# Altium schematic symbol library AMZ_Altium_Lib.SchLib: 396 symbols (part 2 of 3)
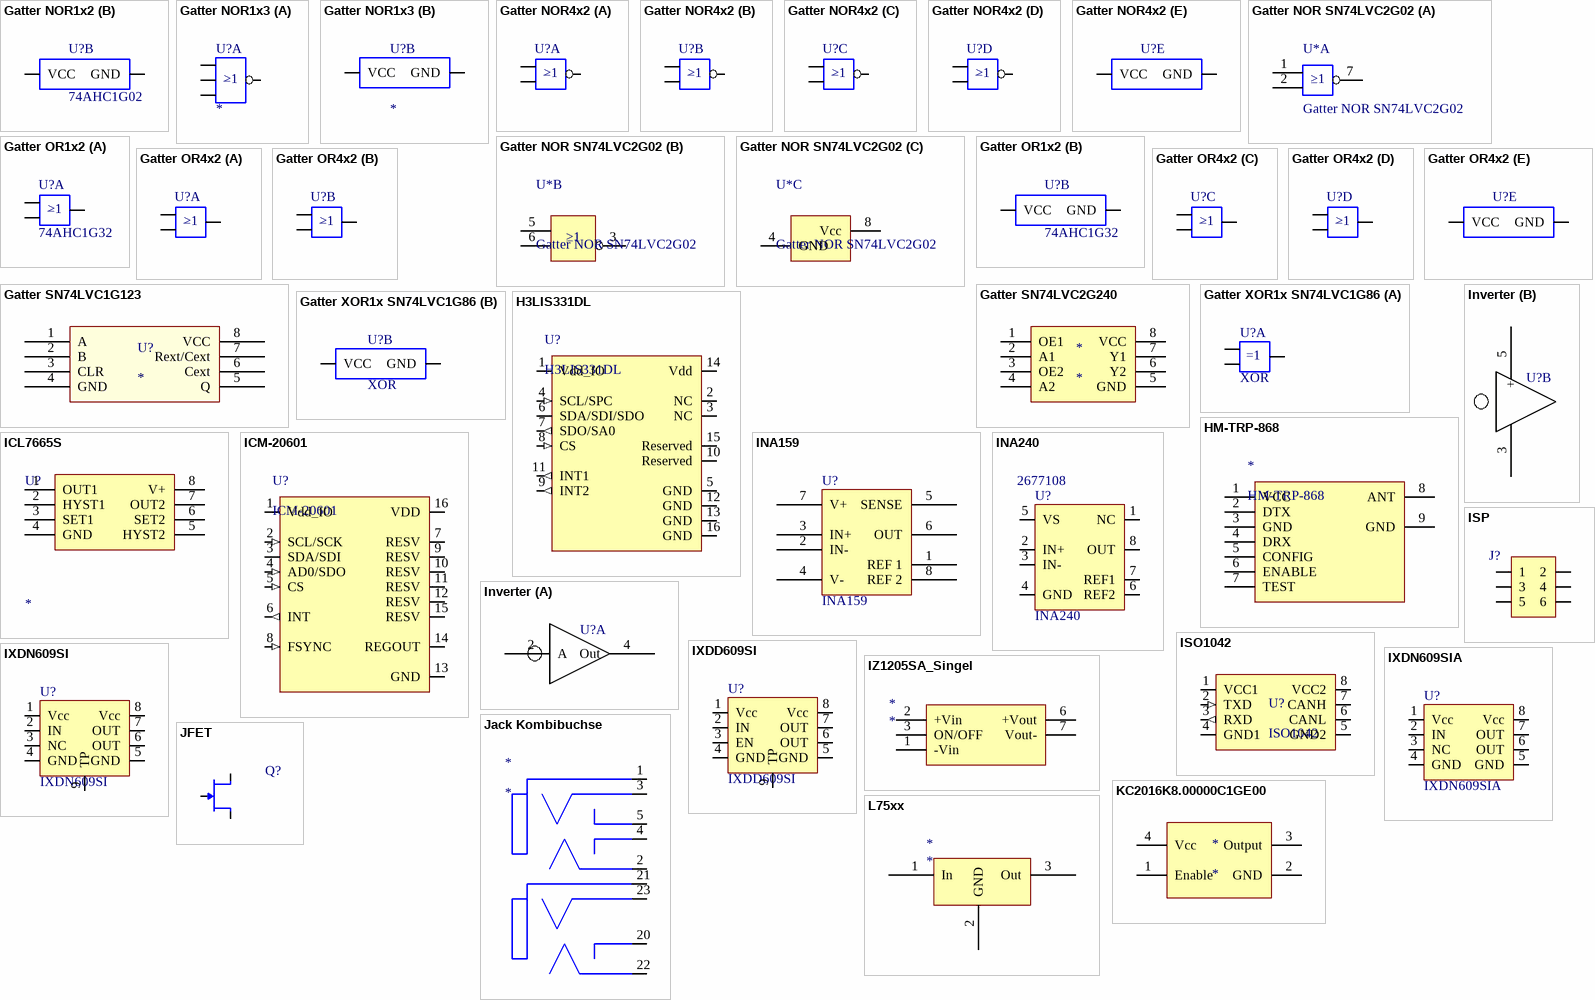
[diagram p20: symbols Gatter NOR1x2 to L75xx]

## IXDD609SI
designator U?
9-Ampere Low-Side Ultrafast MOSFET Driver with enable input
footprint SOIC-8-T (Exposed Thermal Pad)
pins: 1 Vcc, 2 IN, 3 EN, 4 GND, 5 GND, 6 OUT, 7 OUT, 8 Vcc, 9 TP

## IXDN609SI
designator U?
9-Ampere Low-Side Ultrafast MOSFET Drivers
footprint SOIC-8-T (Exposed Thermal Pad)
pins: 1 Vcc, 2 IN, 3 NC, 4 GND, 5 GND, 6 OUT, 7 OUT, 8 Vcc, 9 TP

## IXDN609SIA
designator U?
9-Ampere Low-Side Ultrafast MOSFET Drivers
footprint SO8
pins: 1 Vcc, 2 IN, 3 NC, 4 GND, 5 GND, 6 OUT, 7 OUT, 8 Vcc

## IZ1205SA_Singel
designator *
footprint XPPowerIZ
pins: 1 -Vin, 2 +Vin, 3 ON/OFF, 6 +Vout, 7 Vout-, 8 NC hidden

## Jack Kombibuchse
designator *
footprint Headsetbuchse
pins: 1, 2, 3, 4, 5, 20, 21, 22, 23

## JFET
designator Q?  (value not drawn)
pins: 1 DRAIN, 2 Source, 3 G

## KC2016K8.00000C1GE00
designator *
footprint KC2016K8.00000C1GE00 (Oszillator)
pins: 1 Enable, 2 GND, 3 Output, 4 Vcc

## L75xx
designator *
pins: 1 In, 2 GND, 3 Out

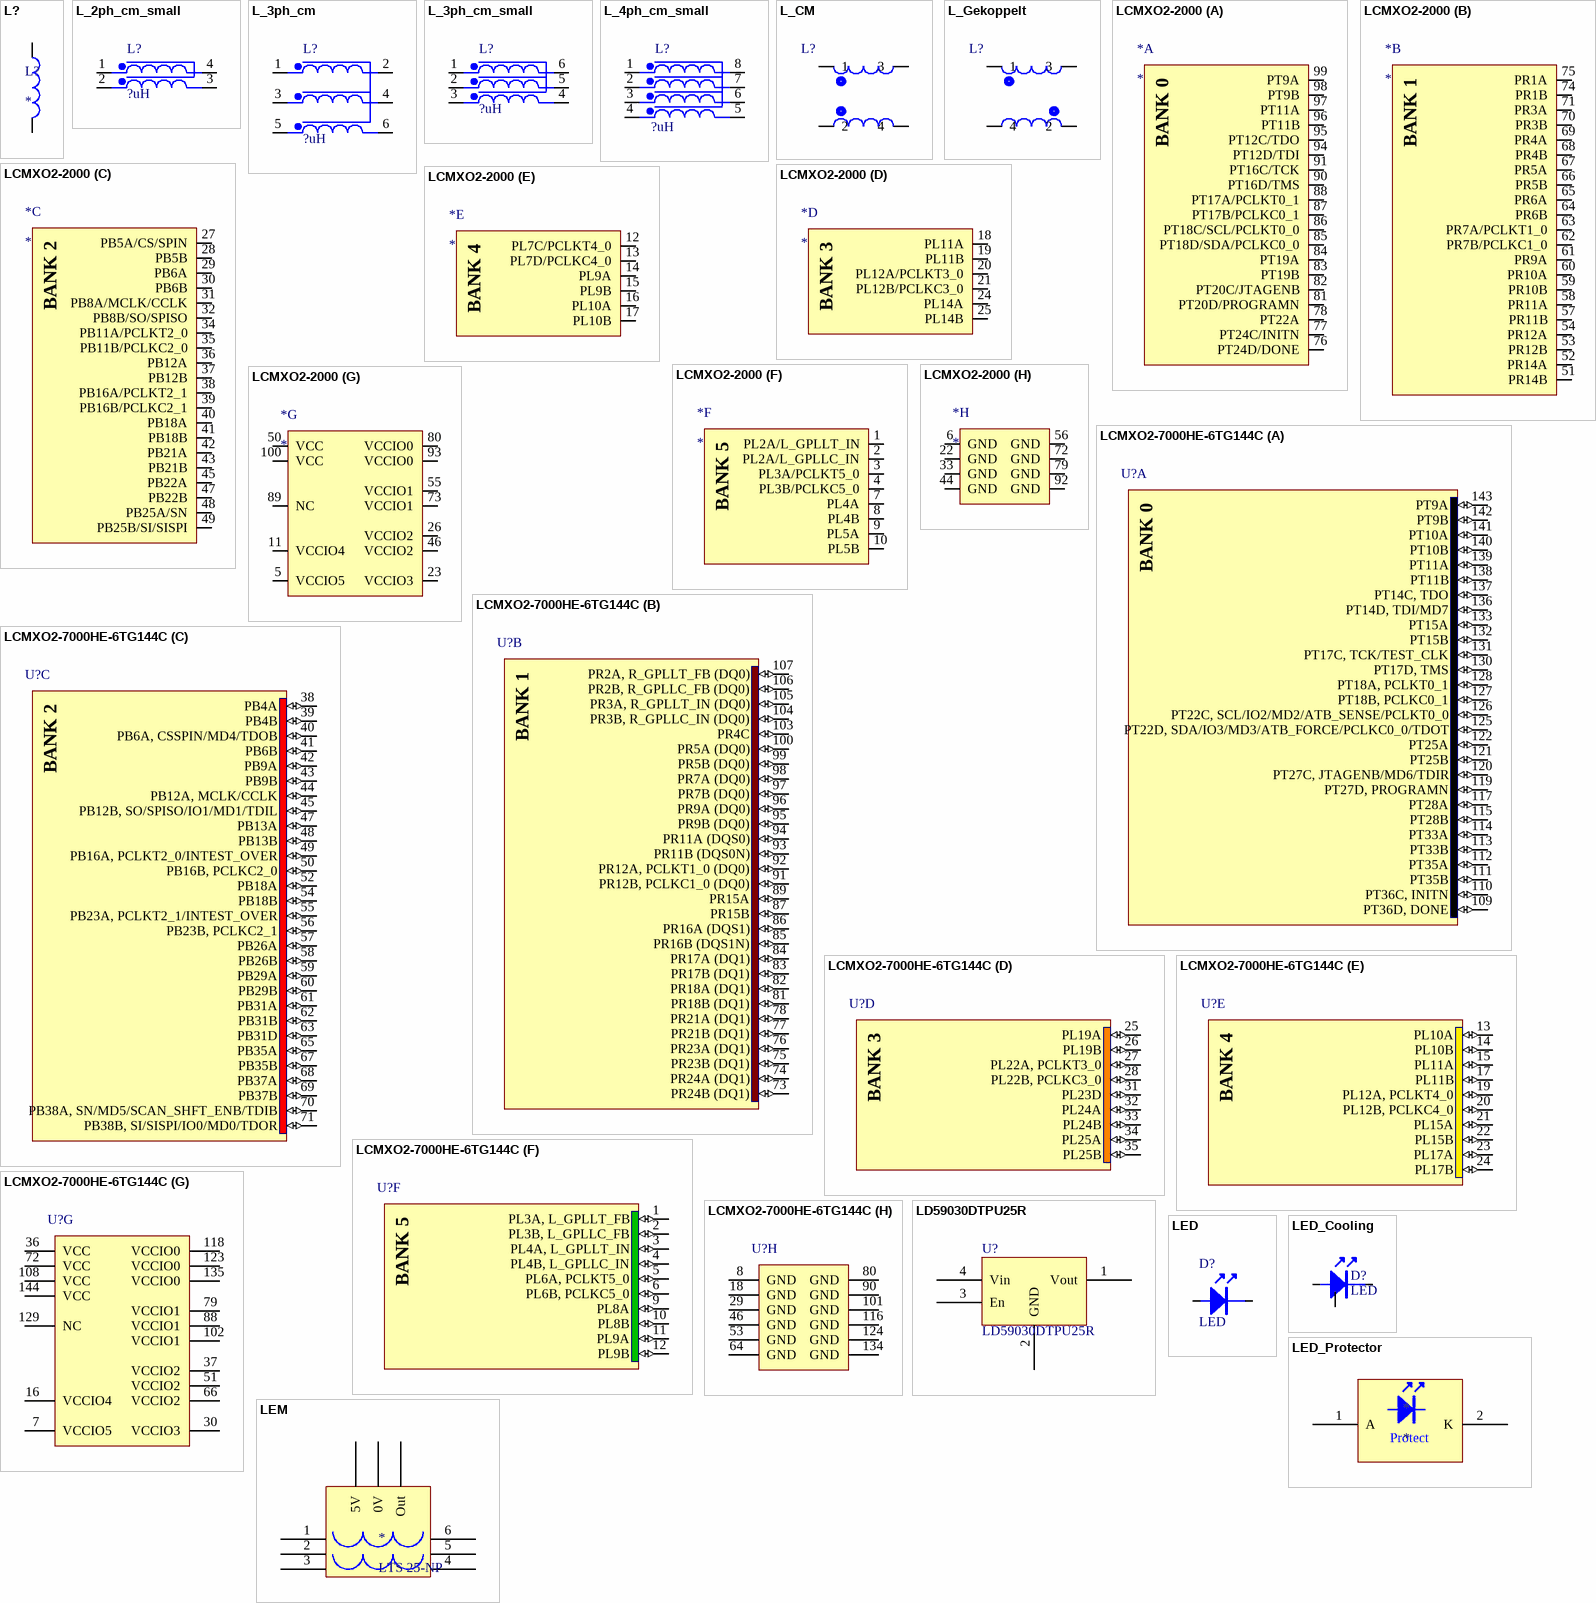
[diagram p8: symbols L? to LEM]

## L?
designator L?
footprint L (Spule gross)
footprint L_Coilcraft_XAL8080 (Shielded Power Inductors 8.1 x 8.6 mm)
footprint 1206
footprint 4828_Bourns (12uH 4828 2A SRR4828A-120M)
footprint L_BOURNS_SRP3020TA
footprint L_BOURNS_SRU2013 (Bourns)
footprint L_TDK_NLFV32-EF
pins: 1, 2

## L_2ph_cm_small
designator L?, comment ?uH
2 Phase Common Mode Choke
footprint ACM2520-2P (2x CM Choke)
footprint L_2014 (2x CM Choke, Attention, Pin Numbers diff from Datasheet)
footprint L_TDK_ACP3225
pins: 1, 2, 3, 4

## L_3ph_cm
designator L?, comment ?uH
3 Phase Common Mode Choke
footprint L_T60405-S6123-X332 (3 Phase Common Mode Choke Vacuumschmelze T60405-S6123-X332)
pins: 1 U1, 2 U2, 3 V1, 4 V2, 5 W1, 6 W2

## L_3ph_cm_small
designator L?, comment ?uH
3 Phase Common Mode Choke
footprint ACM2520-3P (3x CM Choke)
pins: 1, 2, 3, 4, 5, 6

## L_4ph_cm_small
designator L?, comment ?uH
4 Phase Common Mode Choke
pins: 1, 2, 3, 4, 5, 6, 7, 8

## L_CM
designator L?
Common Mode Choke
footprint Coupled_Inductor
pins: 1, 2, 3, 4

## L_Gekoppelt
designator L?
Normaler Widerstand
footprint Coupled_Inductor
pins: 1, 2, 3, 4

## LCMXO2-2000
designator *
footprint TQFP100 _0.5mm_1.6mm
part A pins: 76 PT24D/DONE (io), 77 PT24C/INITN (io), 78 PT22A (io), 81 PT20D/PROGRAMN (io), 82 PT20C/JTAGENB (io), 83 PT19B (io), 84 PT19A (io), 85 PT18D/SDA/PCLKC0_0 (io), 86 PT18C/SCL/PCLKT0_0 (io), 87 PT17B/PCLKC0_1 (io), 88 PT17A/PCLKT0_1 (io), 90 PT16D/TMS (io), 91 PT16C/TCK (io), 94 PT12D/TDI (io), 95 PT12C/TDO (io), 96 PT11B (io), 97 PT11A (io), 98 PT9B (io), 99 PT9A (io)
part B pins: 51 PR14B (io), 52 PR14A (io), 53 PR12B (io), 54 PR12A (io), 57 PR11B (io), 58 PR11A (io), 59 PR10B (io), 60 PR10A (io), 61 PR9A (io), 62 PR7B/PCLKC1_0 (io), 63 PR7A/PCLKT1_0 (io), 64 PR6B (io), 65 PR6A (io), 66 PR5B (io), 67 PR5A (io), 68 PR4B (io), 69 PR4A (io), 70 PR3B (io), 71 PR3A (io), 74 PR1B (io), 75 PR1A (io)
part C pins: 27 PB5A/CS/SPIN (io), 28 PB5B (io), 29 PB6A (io), 30 PB6B (io), 31 PB8A/MCLK/CCLK (io), 32 PB8B/SO/SPISO (io), 34 PB11A/PCLKT2_0 (io), 35 PB11B/PCLKC2_0 (io), 36 PB12A (io), 37 PB12B (io), 38 PB16A/PCLKT2_1 (io), 39 PB16B/PCLKC2_1 (io), 40 PB18A (io), 41 PB18B (io), 42 PB21A (io), 43 PB21B (io), 45 PB22A (io), 47 PB22B (io), 48 PB25A/SN (io), 49 PB25B/SI/SISPI (io)
part D pins: 18 PL11A (io), 19 PL11B (io), 20 PL12A/PCLKT3_0 (io), 21 PL12B/PCLKC3_0 (io), 24 PL14A (io), 25 PL14B (io)
part E pins: 12 PL7C/PCLKT4_0 (io), 13 PL7D/PCLKC4_0 (io), 14 PL9A (io), 15 PL9B (io), 16 PL10A (io), 17 PL10B (io)
part F pins: 1 PL2A/L_GPLLT_IN (io), 2 PL2A/L_GPLLC_IN (io), 3 PL3A/PCLKT5_0 (io), 4 PL3B/PCLKC5_0 (io), 7 PL4A (io), 8 PL4B (io), 9 PL5A (io), 10 PL5B (io)
part G pins: 5 VCCIO5 (power), 11 VCCIO4 (power), 23 VCCIO3 (power), 26 VCCIO2 (power), 46 VCCIO2 (power), 50 VCC (power), 55 VCCIO1 (power), 73 VCCIO1 (power), 80 VCCIO0 (power), 89 NC, 93 VCCIO0 (power), 100 VCC (power)
part H pins: 6 GND (power), 22 GND (power), 33 GND (power), 44 GND (power), 56 GND (power), 72 GND (power), 79 GND (power), 92 GND (power)
part A text: BANK 0
part B text: BANK 1
part C text: BANK 2
part D text: BANK 3
part E text: BANK 4
part F text: BANK 5

## LCMXO2-7000HE-6TG144C
designator U?
MachXO2 High Performance CPLD with 6864 LUTs, 1.2V, 144-pin TQFP, Speed Grade-6, Commercial Grade, Halogen Free (RoHS); DatasheetVersion: ver01.5, Aug-2011; PackageVersion: ver02.8, Jul-2011; PackageReference: TQFP144; PackageDescription: 144-Pin Thin Quad Flat Pack (TQFP144); Code_JEDEC: MS-026-BFB; ComponentLink1Description: Manufacturer URL; ComponentLink1URL: http://www.latticesemi.com/; ComponentLink2Description: Datasheet; ComponentLink2URL: http://www.latticesemi.com/documents/DS1035.pdf; ComponentLink3Description: Package Specification; ComponentLink3URL: http://www.latticesemi.com/lit/docs/package/pkg.pdf
footprint TQFP144_N (Thin QFP, 144-Leads, Body 20x20mm, Pitch 0.5mm, IPC Medium Density)
footprint TQFP144_L (Thin QFP, 144-Leads, Body 20x20mm, Pitch 0.5mm, IPC High Density)
footprint TQFP144_M (Thin QFP, 144-Leads, Body 20x20mm, Pitch 0.5mm, IPC Low Density)
part A pins: 109 PT36D, DONE (io), 110 PT36C, INITN (io), 111 PT35B (io), 112 PT35A (io), 113 PT33B (io), 114 PT33A (io), 115 PT28B (io), 117 PT28A (io), 119 PT27D, PROGRAMN (io), 120 PT27C, JTAGENB/MD6/TDIR (io), 121 PT25B (io), 122 PT25A (io), 125 PT22D, SDA/IO3/MD3/ATB_FORCE/PCLKC0_0/TDOT (io), 126 PT22C, SCL/IO2/MD2/ATB_SENSE/PCLKT0_0 (io), 127 PT18B, PCLKC0_1 (io), 128 PT18A, PCLKT0_1 (io), 130 PT17D, TMS (io), 131 PT17C, TCK/TEST_CLK (io), 132 PT15B (io), 133 PT15A (io), 136 PT14D, TDI/MD7 (io), 137 PT14C, TDO (io), 138 PT11B (io), 139 PT11A (io), 140 PT10B (io), 141 PT10A (io), 142 PT9B (io), 143 PT9A (io)
part B pins: 73 PR24B (DQ1) (io), 74 PR24A (DQ1) (io), 75 PR23B (DQ1) (io), 76 PR23A (DQ1) (io), 77 PR21B (DQ1) (io), 78 PR21A (DQ1) (io), 81 PR18B (DQ1) (io), 82 PR18A (DQ1) (io), 83 PR17B (DQ1) (io), 84 PR17A (DQ1) (io), 85 PR16B (DQS1N) (io), 86 PR16A (DQS1) (io), 87 PR15B (io), 89 PR15A (io), 91 PR12B, PCLKC1_0 (DQ0) (io), 92 PR12A, PCLKT1_0 (DQ0) (io), 93 PR11B (DQS0N) (io), 94 PR11A (DQS0) (io), 95 PR9B (DQ0) (io), 96 PR9A (DQ0) (io), 97 PR7B (DQ0) (io), 98 PR7A (DQ0) (io), 99 PR5B (DQ0) (io), 100 PR5A (DQ0) (io), 103 PR4C (io), 104 PR3B, R_GPLLC_IN (DQ0) (io), 105 PR3A, R_GPLLT_IN (DQ0) (io), 106 PR2B, R_GPLLC_FB (DQ0) (io), 107 PR2A, R_GPLLT_FB (DQ0) (io)
part C pins: 38 PB4A (io), 39 PB4B (io), 40 PB6A, CSSPIN/MD4/TDOB (io), 41 PB6B (io), 42 PB9A (io), 43 PB9B (io), 44 PB12A, MCLK/CCLK (io), 45 PB12B, SO/SPISO/IO1/MD1/TDIL (io), 47 PB13A (io), 48 PB13B (io), 49 PB16A, PCLKT2_0/INTEST_OVER (io), 50 PB16B, PCLKC2_0 (io), 52 PB18A (io), 54 PB18B (io), 55 PB23A, PCLKT2_1/INTEST_OVER (io), 56 PB23B, PCLKC2_1 (io), 57 PB26A (io), 58 PB26B (io), 59 PB29A (io), 60 PB29B (io), 61 PB31A (io), 62 PB31B (io), 63 PB31D (io), 65 PB35A (io), 67 PB35B (io), 68 PB37A (io), 69 PB37B (io), 70 PB38A, SN/MD5/SCAN_SHFT_ENB/TDIB (io), 71 PB38B, SI/SISPI/IO0/MD0/TDOR (io)
part D pins: 25 PL19A (io), 26 PL19B (io), 27 PL22A, PCLKT3_0 (io), 28 PL22B, PCLKC3_0 (io), 31 PL23D (io), 32 PL24A (io), 33 PL24B (io), 34 PL25A (io), 35 PL25B (io)
part E pins: 13 PL10A (io), 14 PL10B (io), 15 PL11A (io), 17 PL11B (io), 19 PL12A, PCLKT4_0 (io), 20 PL12B, PCLKC4_0 (io), 21 PL15A (io), 22 PL15B (io), 23 PL17A (io), 24 PL17B (io)
part F pins: 1 PL3A, L_GPLLT_FB (io), 2 PL3B, L_GPLLC_FB (io), 3 PL4A, L_GPLLT_IN (io), 4 PL4B, L_GPLLC_IN (io), 5 PL6A, PCLKT5_0 (io), 6 PL6B, PCLKC5_0 (io), 9 PL8A (io), 10 PL8B (io), 11 PL9A (io), 12 PL9B (io)
part G pins: 7 VCCIO5 (power), 16 VCCIO4 (power), 30 VCCIO3 (power), 36 VCC (power), 37 VCCIO2 (power), 51 VCCIO2 (power), 66 VCCIO2 (power), 72 VCC (power), 79 VCCIO1 (power), 88 VCCIO1 (power), 102 VCCIO1 (power), 108 VCC (power), 118 VCCIO0 (power), 123 VCCIO0 (power), 129 NC, 135 VCCIO0 (power), 144 VCC (power)
part H pins: 8 GND (power), 18 GND (power), 29 GND (power), 46 GND (power), 53 GND (power), 64 GND (power), 80 GND (power), 90 GND (power), 101 GND (power), 116 GND (power), 124 GND (power), 134 GND (power)
part A text: BANK 0
part B text: BANK 1
part C text: BANK 2
part D text: BANK 3
part E text: BANK 4
part F text: BANK 5

## LD59030DTPU25R
designator U?
Linearregler 2.5V
footprint DFN4 1x1
pins: 1 Vout, 2 GND, 3 En, 4 Vin

## LED
designator D?
pins: A, K

## LED_Cooling
designator D?, comment LED
footprint LED_CREE (Cree LED)
footprint LED_LHCPDP (OSRAM OSLON SSL ® 150 LH CPDP hyper red LED 1W)
footprint LED_LTCPDP (OSRAM OSLON SSL ® 150 LT CPDP true green LED 1W)
pins: A, C, K

## LED_Protector
designator *
footprint LED_Protector
pins: 1 A, 2 K
text: Protect

## LEM
designator *, comment LTS 25-NP
footprint LEM
pins: 0V (power), 1, 2, 3, 4, 5, 5V (power), 6, Out (power)

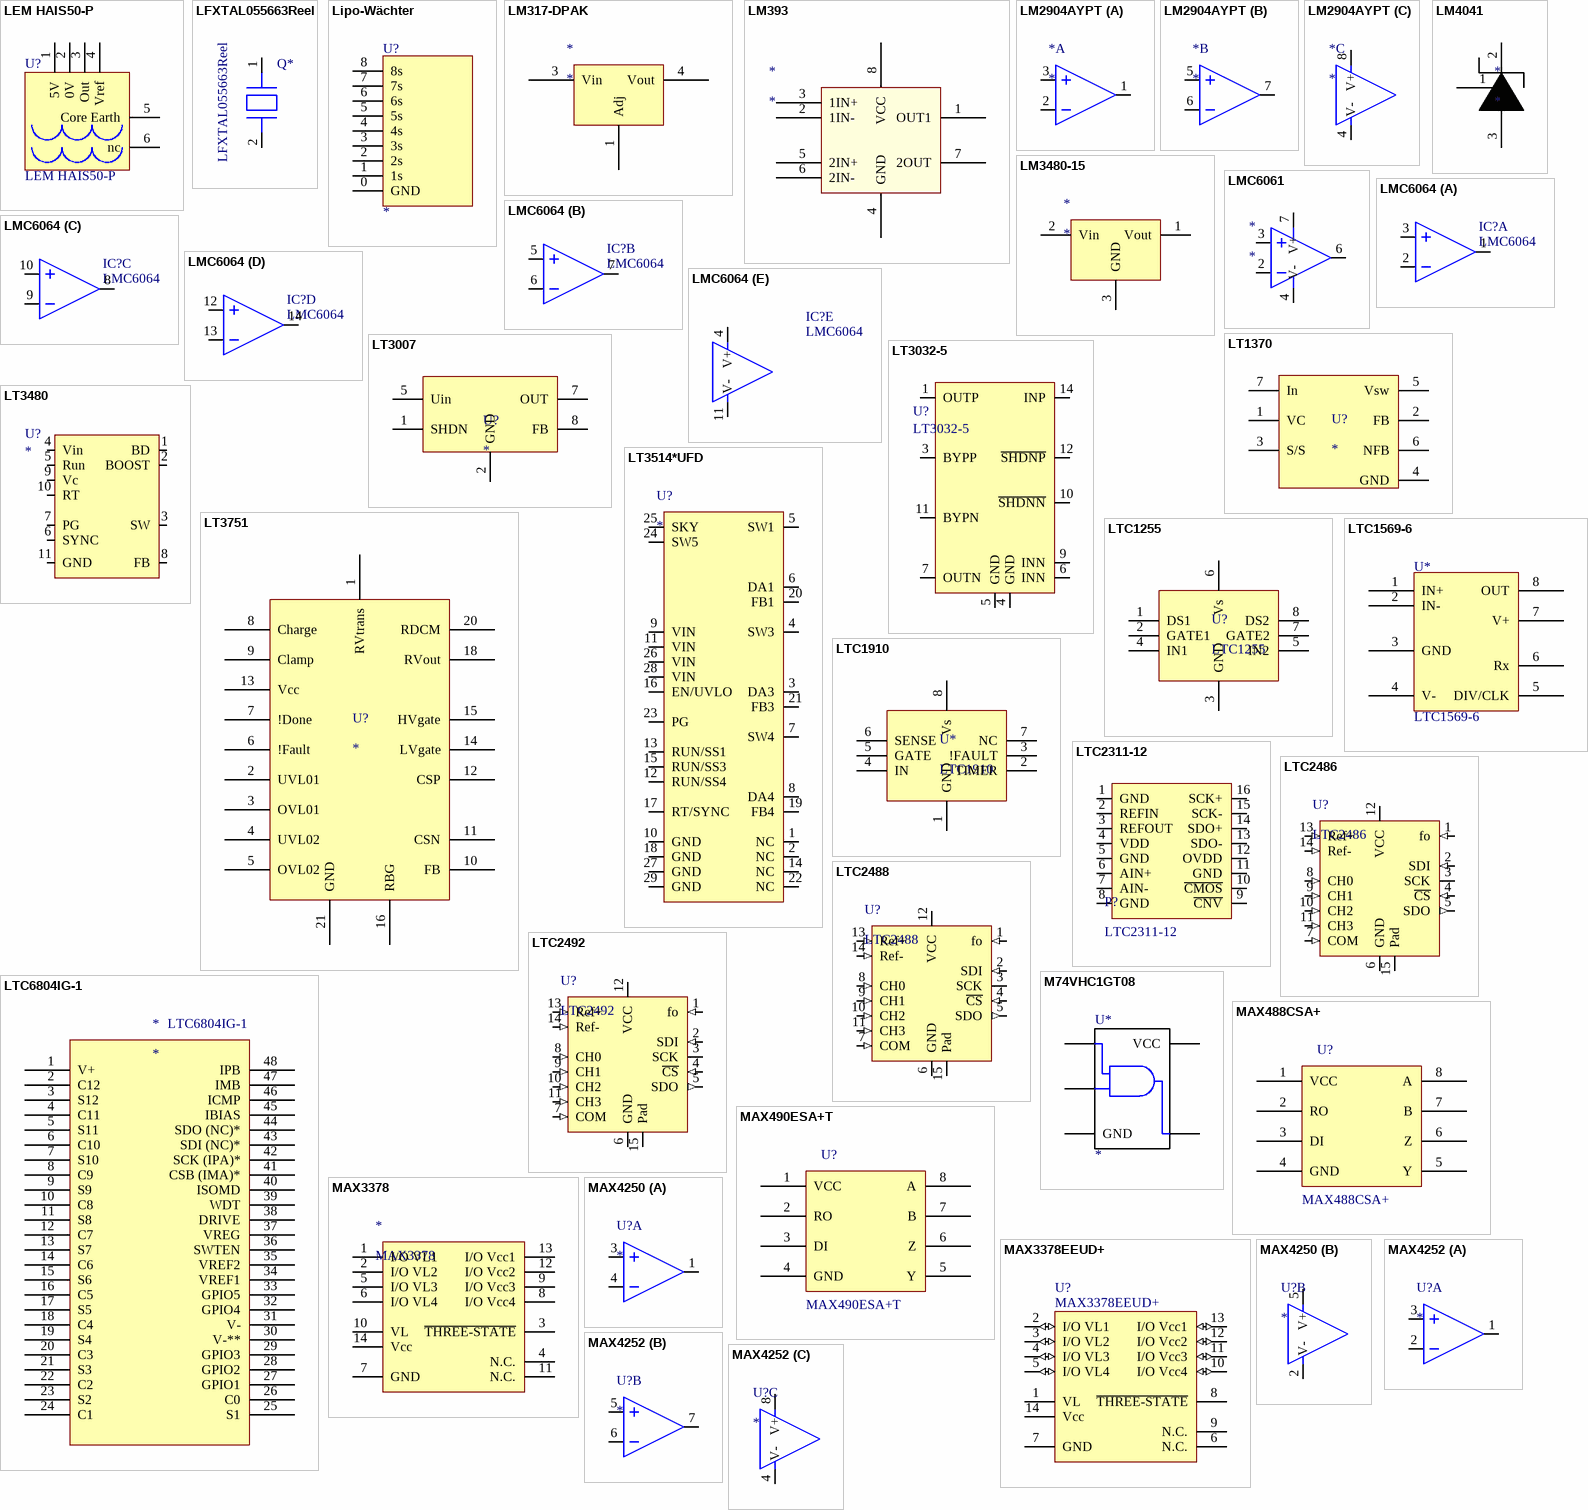
[diagram p9: symbols LEM HAIS50-P to MAX4252]

## LEM HAIS50-P
designator U?
Current Transducer HAIS 50
footprint LEM HAIS50-P (Current Transducer HAIS 50-P)
pins: 1 5V (power), 2 0V (power), 3 Out (power), 4 Vref, 5 Core Earth, 6 nc

## LFXTAL055663Reel
designator Q*
LFXTAL055663Reel Quarz 8MHz
pins: 1, 2

## Lipo-Wächter
designator U?
https://www.aliexpress.com/item/Free-Shipping-3-7-30V-Voltage-monitor-1-8S-Lipo-Li-ion-Fe-Battery-Voltage-2IN1/32620299537.html?spm=2114.13010608.0.0.N1JMHj
footprint Lipo_Saver_8s (https://www.aliexpress.com/item/Free-Shipping-3-7-30V-Voltage-monitor-1-8S-Lipo-Li-ion-Fe-Battery-Voltage-2IN1/32620299537.html?spm=2114.13010608.0.0.N1JMHj)
pins: 0 GND, 1 1s, 2 2s, 3 3s, 4 4s, 5 5s, 6 6s, 7 7s, 8 8s

## LM317-DPAK
designator *
footprint DPAK
pins: 1 Adj (power), 3 Vin (power), 4 Vout (power)

## LM393
designator *
pins: 1 OUT1, 2 1IN-, 3 1IN+, 4 GND, 5 2IN+, 6 2IN-, 7 2OUT, 8 VCC

## LM2904AYPT
designator *
part A pins: 1 Out D, 2 -In D, 3 +In D
part B pins: 5 +In D, 6 -In D, 7 Out D
part C pins: 4 V-, 8 V+

## LM3480-15
designator *
footprint SOT-23
pins: 1 Vout (power), 2 Vin (power), 3 GND (power)

## LM4041
designator *
pins: 1, 2, 3

## LMC6061
designator *
pins: 2, 3, 4 V-, 6, 7 V+

## LMC6064
designator IC?
footprint SO-14
part A pins: 1 Out A, 2 -In A, 3 +In A
part B pins: 5 -In B, 6 - In B, 7 Out B
part C pins: 8 OUT C, 9 - IN C, 10 +IN C
part D pins: 12 +In D, 13 -In D, 14 Out D
part E pins: 4 V+, 11 V-

## LT1370
designator U?
500kHz High Efficiency 6A Switching Regulator
footprint 7DPAK
pins: 1 VC (power), 2 FB (power), 3 S/S (power), 4 GND (power), 5 Vsw (power), 6 NFB (power), 7 In (power)

## LT3007
designator U?
3μA IQ, 20mA, 45V Low Dropout Fault Tolerant Linear Regulators
footprint SOT23-8
pins: 1 SHDN, 2 GND, 3 GND, 4 GND, 5 Uin, 7 OUT, 8 FB

## LT3032-5
designator U?
Dual 150mA Positive/Negative Low Noise Low Dropout Linear Regulator +-5V
footprint DE14MA
pins: 1 OUTP, 3 BYPP, 4 GND, 5 GND, 6 INN, 7 OUTN, 9 INN, 10 ~{SHDNN}, 11 BYPN, 12 ~{SHDNP}, 14 INP

## LT3480
designator U?
36V, 2A, 2.4MHz Step-Down Switching Regulator with 70μA Quiescent Current
pins: 1 BD, 2 BOOST, 3 SW, 4 Vin, 5 Run, 6 SYNC, 7 PG, 8 FB, 9 Vc, 10 RT, 11 GND

## LT3514*UFD
designator U?
Triple Step-Down Switching Regulator with 100% Duty Cycle Operation
footprint QFN28_0.5mm (QFN28 with 0.5mm spacing)
pins: 1 NC, 2 NC, 3 DA3, 4 SW3, 5 SW1, 6 DA1, 7 SW4, 8 DA4, 9 VIN, 10 GND, 11 VIN, 12 RUN/SS4, 13 RUN/SS1, 14 NC, 15 RUN/SS3, 16 EN/UVLO, 17 RT/SYNC, 18 GND, 19 FB4, 20 FB1, 21 FB3, 22 NC, 23 PG, 24 SW5, 25 SKY, 26 VIN, 27 GND, 28 VIN, 29 GND

## LT3751
designator U?
High Voltage Capacitor  Charger Controller with Regulation
footprint TSSOP20 (TSSOP20 Industriegehäuse LT3751)
pins: 1 RVtrans, 2 UVL01, 3 OVL01, 4 UVL02, 5 OVL02, 6 !Fault, 7 !Done, 8 Charge, 9 Clamp, 10 FB, 11 CSN, 12 CSP, 13 Vcc, 14 LVgate, 15 HVgate, 16 RBG, 18 RVout, 20 RDCM, 21 GND

## LTC1255
designator U?
Dual 24V High-Side  MOSFET Driver
footprint SO8
pins: 1 DS1, 2 GATE1, 3 GND, 4 IN1, 5 IN2, 6 Vs, 7 GATE2, 8 DS2

## LTC1569-6
designator U*
Lowpass Filter 10th Order, Linear Phase, DC Accurate, Low Power
footprint SO-8
pins: 1 IN+, 2 IN-, 3 GND, 4 V-, 5 DIV/CLK, 6 Rx, 7 V+, 8 OUT

## LTC1910
designator U*
Single 48V High-Side  MOSFET Driver
footprint SO8
pins: 1 GND, 2 TIMER, 3 !FAULT, 4 IN, 5 GATE, 6 SENSE, 7 NC (oc), 8 Vs

## LTC2311-12
designator P?
12-Bit + Sign, 5Msps / Differential Input ADC with Wide / Input Common Mode Range; ComponentLink1Description: Datasheet; ComponentLink1URL: https://www.analog.com/media/en/technical-documentation/data-sheets/231112f.pdf
pins: 1 GND, 2 REFIN, 3 REFOUT, 4 VDD, 5 GND, 6 AIN+, 7 AIN-, 8 GND, 9 ~{CNV}, 10 ~{CMOS}, 11 GND, 12 OVDD, 13 SDO-, 14 SDO+, 15 SCK-, 16 SCK+

## LTC2486
designator U?
16-Bit 2-/4-Channel ΔS ADC with PGA and Easy Drive Input Current Cancellation
footprint DFN14_0.5mm (DFN14 with 0.5mm pitch)
pins: 1 fo (in), 2 SDI (in), 3 SCK (io), 4 ~{CS} (in), 5 SDO (out), 6 GND (power), 7 COM (in), 8 CH0 (in), 9 CH1 (in), 10 CH2 (in), 11 CH3 (in), 12 VCC (power), 13 Ref+ (in), 14 Ref- (in), 15 Pad

## LTC2488
designator U?
16-Bit 2-/4-Channel ΔS ADC with Easy Drive Input Current Cancellation
footprint DFN14_0.5mm (DFN14 with 0.5mm pitch)
pins: 1 fo (in), 2 SDI (in), 3 SCK (io), 4 ~{CS} (in), 5 SDO (out), 6 GND (power), 7 COM (in), 8 CH0 (in), 9 CH1 (in), 10 CH2 (in), 11 CH3 (in), 12 VCC (power), 13 Ref+ (in), 14 Ref- (in), 15 Pad

## LTC2492
designator U?
24-Bit 2-/4-Channel ΔΣ ADC with Easy Drive Input Current Cancellation
footprint DFN14_0.5mm (DFN14 with 0.5mm pitch)
pins: 1 fo (in), 2 SDI (in), 3 SCK (io), 4 ~{CS} (in), 5 SDO (out), 6 GND (power), 7 COM (in), 8 CH0 (in), 9 CH1 (in), 10 CH2 (in), 11 CH3 (in), 12 VCC (power), 13 Ref+ (in), 14 Ref- (in), 15 Pad

## LTC6804IG-1
designator *  Supplier Part Number 1: LTC6804IG-1
IC MONITOR BATT STACK 48SSOP; Manufacturer: Linear Technology; Manufacturer Part Number: LTC6804IG-1#TRPBF; Function: Battery Monitor, Over/Under Voltage Protection; Battery Chemistry: Multi-Chemistry; Voltage - Supply: 11 V ~ 55 V; Supplier 1: Digi-Key; RoHS: RoHS Compliant; Category: Integrated Circuits (ICs); Stock 1: 0; Pricing 1: 2000=12.84 (USD); Packaging: Tape & Reel (TR); Operating Temperature: -40°C ~ 85°C; Mounting Type: Surface Mount; Package / Case: 48-FSOP (0.209", 5.30mm Width); Supplier Device Package: 48-SSOP; ComponentLink1URL: http://www.linear.com/docs/43171; ComponentLink1Description: http://www.linear.com/docs/43171; Supplier 2: Digi-Key
footprint SSOP48
pins: 1 V+, 2 C12, 3 S12, 4 C11, 5 S11, 6 C10, 7 S10, 8 C9, 9 S9, 10 C8, 11 S8, 12 C7, 13 S7, 14 C6, 15 S6, 16 C5, 17 S5, 18 C4, 19 S4, 20 C3, 21 S3, 22 C2, 23 S2, 24 C1, 25 S1, 26 C0, 27 GPIO1, 28 GPIO2, 29 GPIO3, 30 V-**, 31 V-, 32 GPIO4, 33 GPIO5, 34 VREF1, 35 VREF2, 36 SWTEN, 37 VREG, 38 DRIVE, 39 WDT, 40 ISOMD, 41 CSB (IMA)*, 42 SCK (IPA)*, 43 SDI (NC)*, 44 SDO (NC)*, 45 IBIAS, 46 ICMP, 47 IMB, 48 IPB

## M74VHC1GT08
designator U*
Logic Gates 3-5.5V Single 2-Input AND TTL
footprint SOT23-5
pins: 1 IN B, 2 IN A, 3 GND, 4 OUT, 5 VCC

## MAX488CSA+
designator U?
Hersteller: Maxim Integrated; Produktkategorie: RS-422/RS- 485-Schnittstelle IC; Montageart: SMD/SMT; Verpackung/Gehäuse: SO-8; Mouser-Nr: 700-MAX488CSA
footprint SO-8
pins: 1 VCC (power), 2 RO, 3 DI, 4 GND, 5 Y, 6 Z, 7 B, 8 A

## MAX490ESA+T
designator U?
Hersteller: Maxim Integrated; Produktkategorie: RS-422/RS- 485-Schnittstelle IC; Montageart: SMD/SMT; Verpackung/Gehäuse: SO-8; Mouser-Nr: 700-MAX490ESAT
footprint SO-8
pins: 1 VCC (power), 2 RO, 3 DI, 4 GND, 5 Y, 6 Z, 7 B, 8 A

## MAX3378
designator *
Spannungsshifter 5V, 3.3V (TDFN)
pins: 1 I/O VL1 (power), 2 I/O VL2 (power), 3 ~{THREE-STATE} (power), 4 N.C. (power), 5 I/O VL3 (power), 6 I/O VL4 (power), 7 GND (power), 8 I/O Vcc4 (power), 9 I/O Vcc3 (power), 10 VL (power), 11 N.C. (power), 12 I/O Vcc2 (power), 13 I/O Vcc1 (power), 14 Vcc (power)

## MAX3378EEUD+
designator U?
Spannungsshifter 5V, 3.3V (TSSOP)
footprint TSSOP14
pins: 1 VL (power), 2 I/O VL1 (io), 3 I/O VL2 (io), 4 I/O VL3 (io), 5 I/O VL4 (io), 6 N.C. (power), 7 GND (power), 8 ~{THREE-STATE} (power), 9 N.C. (power), 10 I/O Vcc4 (io), 11 I/O Vcc3 (io), 12 I/O Vcc2 (io), 13 I/O Vcc1 (io), 14 Vcc (power)

## MAX4250
designator U?
MAX4250
footprint SOT23-5
part A pins: 1 Out D, 3 +In D, 4 -In D
part B pins: 2 V-, 5 V+

## MAX4252
designator U?
MAX4252
footprint DGK-8 (Exposed Thermal Pad)
part A pins: 1 Out D, 2 -In D, 3 +In D
part B pins: 5 +In D, 6 -In D, 7 Out D
part C pins: 4 V-, 8 V+

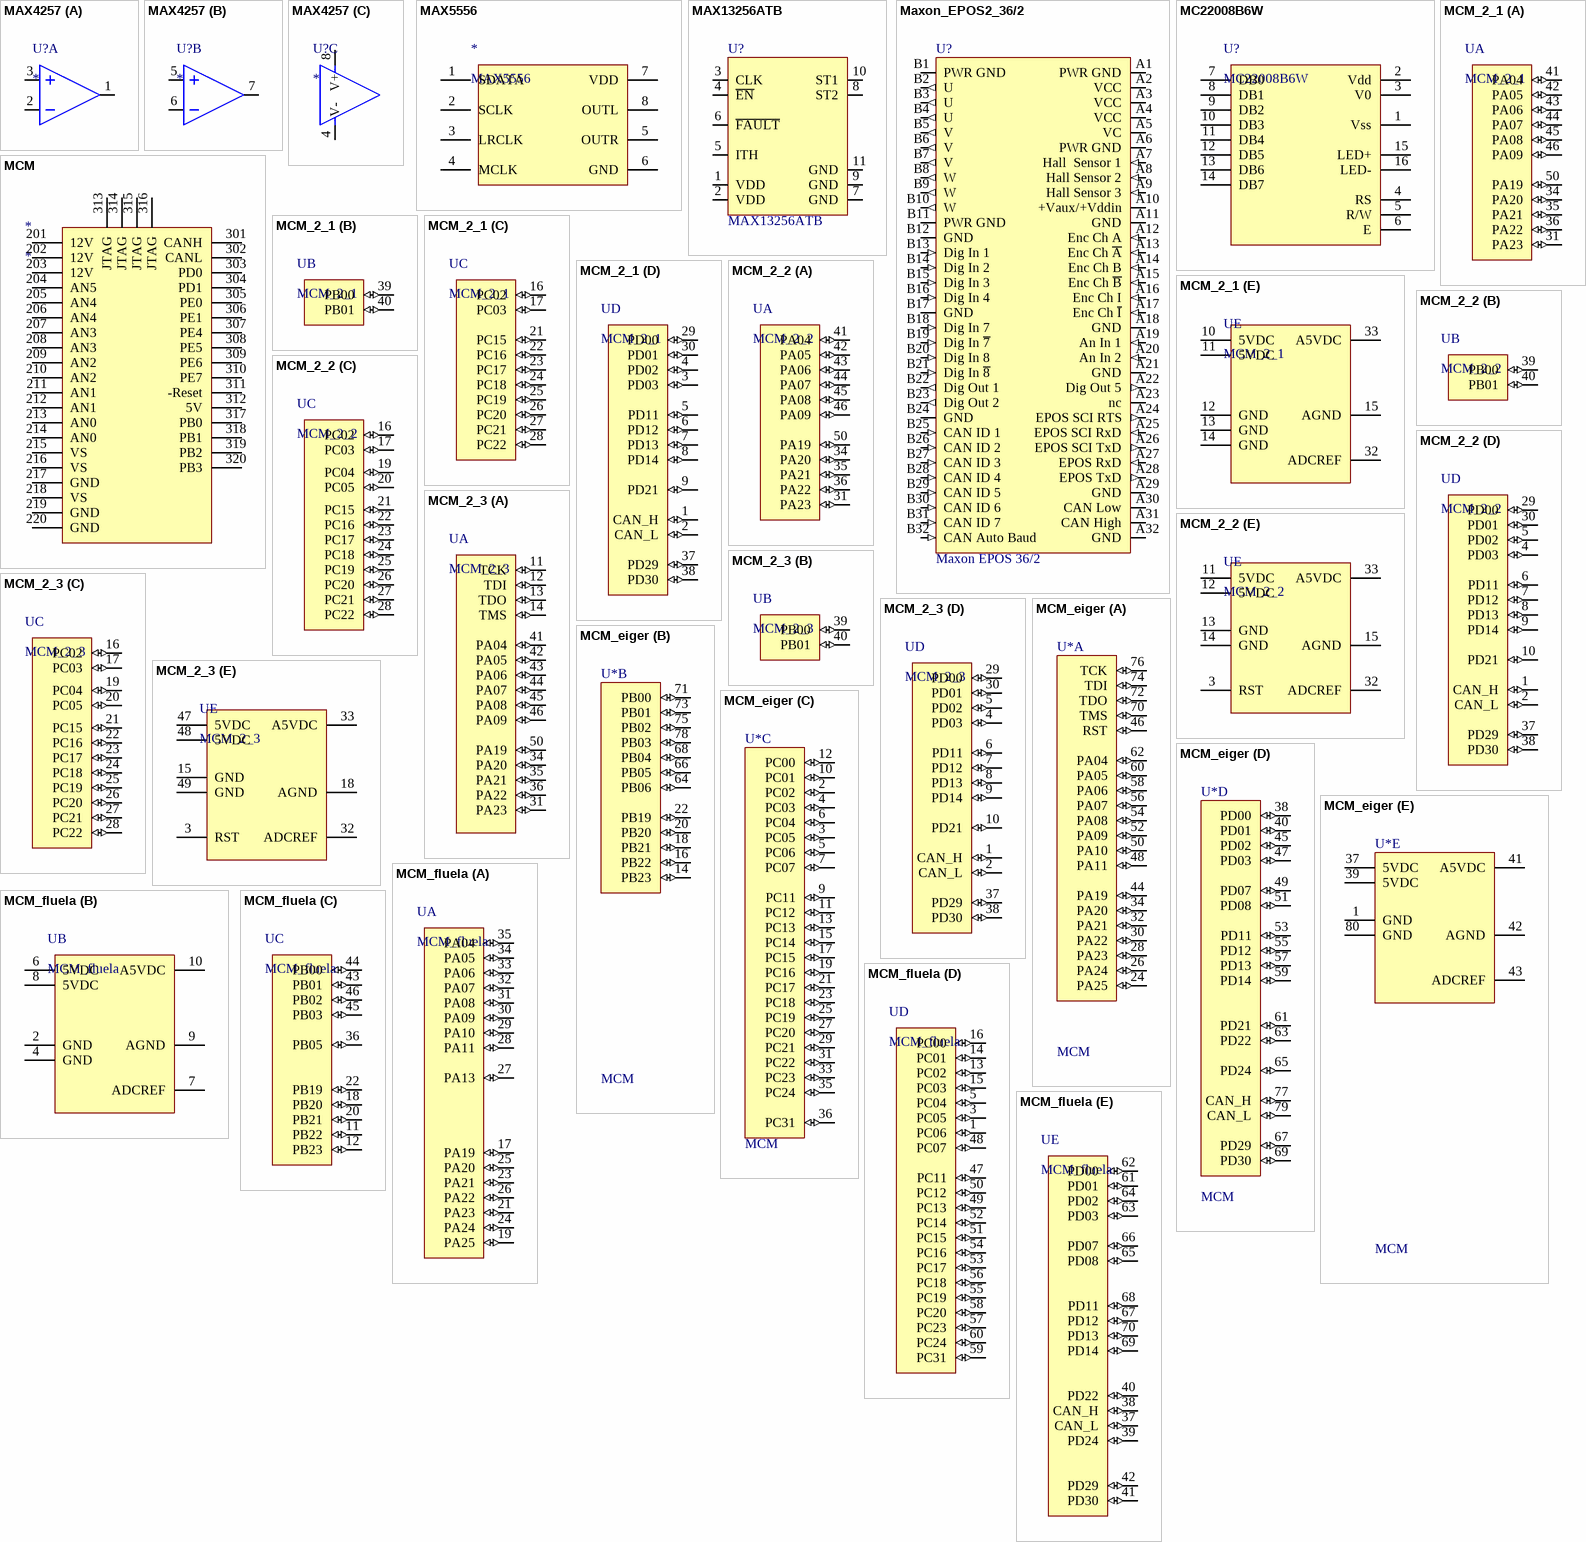
[diagram p10: symbols MAX4257 to MCM_fluela]

## MAX4257
designator U?
MAX4257
footprint SOIC8
part A pins: 1 Out D, 2 -In D, 3 +In D
part B pins: 5 +In D, 6 -In D, 7 Out D
part C pins: 4 V-, 8 V+

## MAX5556
designator *
Low-Cost Stereo Audio DAC
pins: 1 SDATA (power), 2 SCLK (power), 3 LRCLK (power), 4 MCLK (power), 5 OUTR (power), 6 GND (power), 7 VDD (power), 8 OUTL (power)

## MAX13256ATB
designator U?
H-bridge driver for isolated supplies; Supplier 1: Digi-Key; Supplier Part Number 1: MAX13256ATB+TDKR-ND
footprint TDFN-10EP (Maxim TDFN-10 Package with EP)
pins: 1 VDD, 2 VDD, 3 CLK, 4 ~{EN}, 5 ITH, 6 ~{FAULT}, 7 GND, 8 ST2, 9 GND, 10 ST1, 11 GND

## Maxon_EPOS2_36/2
designator U?, comment Maxon EPOS 36/2
EPOS2 Module 36/2, Digitale Positioniersteuerung, 2 A, 11- 36 VDC Artikelnummer 360665
footprint Maxon_EPOS2_36/2_flat (EPOS2 Module 36/2, Digitale Positioniersteuerung, 2 A, 11- 36 VDC Artikelnummer 360665 liegend)
footprint Maxon_EPOS2_36/2_vert (EPOS2 Module 36/2, Digitale Positioniersteuerung, 2 A, 11- 36 VDC Artikelnummer 360665 stehend)
pins: A1 PWR GND (power), A2 VCC (power), A3 VCC (power), A4 VCC (power), A5 VC (power), A6 PWR GND (power), A7 Hall  Sensor 1 (in), A8 Hall Sensor 2 (in), A9 Hall Sensor 3 (in), A10 +Vaux/+Vddin (power), A11 GND (power), A12 Enc Ch A (in), A13 Enc Ch ~{A} (in), A14 Enc Ch B (in), A15 Enc Ch ~{B} (in), A16 Enc Ch I (in), A17 Enc Ch ~{I} (in), A18 GND (power), A19 An In 1 (in), A20 An In 2 (in), A21 GND (power), A22 Dig Out 5 (out), A23 nc, A24 EPOS SCI RTS (out), A25 EPOS SCI RxD (in), A26 EPOS SCI TxD (out), A27 EPOS RxD (in), A28 EPOS TxD (out), A29 GND (power), A30 CAN Low (io), A31 CAN High (io), A32 GND (power), B1 PWR GND (power), B2 U (out), B3 U (out), B4 U (out), B5 V (out), B6 V (out), B7 V (out), B8 W (out), B9 W (out), B10 W (out), B11 PWR GND (power), B12 GND (power), B13 Dig In 1 (in), B14 Dig In 2 (in), B15 Dig In 3 (in), B16 Dig In 4 (in), B17 GND (power), B18 Dig In 7 (in), B19 Dig In ~{7} (in), B20 Dig In 8 (in), B21 Dig In ~{8} (in), B22 Dig Out 1 (out), B23 Dig Out 2 (out), B24 GND (power), B25 CAN ID 1 (in), B26 CAN ID 2 (in), B27 CAN ID 3 (in), B28 CAN ID 4 (in), B29 CAN ID 5 (in), B30 CAN ID 6 (in), B31 CAN ID 7 (in), B32 CAN Auto Baud (in)

## MC22008B6W
designator U?
LCD Display Transflective
pins: 1 Vss (power), 2 Vdd (power), 3 V0 (power), 4 RS (power), 5 R/W (power), 6 E (power), 7 DB0 (power), 8 DB1 (power), 9 DB2 (power), 10 DB3 (power), 11 DB4 (power), 12 DB5 (power), 13 DB6 (power), 14 DB7 (power), 15 LED+ (power), 16 LED- (power)

## MCM
designator *
footprint MCM
pins: 201 12V, 202 12V, 203 12V, 204 AN5, 205 AN4, 206 AN4, 207 AN3, 208 AN3, 209 AN2, 210 AN2, 211 AN1, 212 AN1, 213 AN0, 214 AN0, 215 VS, 216 VS, 217 GND, 218 VS, 219 GND, 220 GND, 301 CANH, 302 CANL, 303 PD0, 304 PD1, 305 PE0, 306 PE1, 307 PE4, 308 PE5, 309 PE6, 310 PE7, 311 -Reset, 312 5V, 313 JTAG, 314 JTAG, 315 JTAG, 316 JTAG, 317 PB0, 318 PB1, 319 PB2, 320 PB3

## MCM_2_1
designator U
32-bit AVR UC3 C Series Microcontroller, 64KB Flash, 16KB SRAM, 81 GPIO pins, Industrial Grade, 100-Pin TQFP, Tray
footprint MCM_2_1
part A pins: 31 PA23 (io), 34 PA20 (io), 35 PA21 (io), 36 PA22 (io), 41 PA04 (io), 42 PA05 (io), 43 PA06 (io), 44 PA07 (io), 45 PA08 (io), 46 PA09 (io), 50 PA19 (io)
part B pins: 39 PB00 (io), 40 PB01 (io)
part C pins: 16 PC02 (io), 17 PC03 (io), 21 PC15 (io), 22 PC16 (io), 23 PC17 (io), 24 PC18 (io), 25 PC19 (io), 26 PC20 (io), 27 PC21 (io), 28 PC22 (io)
part D pins: 1 CAN_H (io), 2 CAN_L (io), 3 PD03 (io), 4 PD02 (io), 5 PD11 (io), 6 PD12 (io), 7 PD13 (io), 8 PD14 (io), 9 PD21 (io), 29 PD00 (io), 30 PD01 (io), 37 PD29 (io), 38 PD30 (io)
part E pins: 10 5VDC (power), 11 5VDC (power), 12 GND (power), 13 GND (power), 14 GND (power), 15 AGND (power), 32 ADCREF (power), 33 A5VDC (power)

## MCM_2_2
designator U
32-bit AVR UC3 C Series Microcontroller, 64KB Flash, 16KB SRAM, 81 GPIO pins, Industrial Grade, 100-Pin TQFP, Tray
footprint MCM_2_1
part A pins: 31 PA23 (io), 34 PA20 (io), 35 PA21 (io), 36 PA22 (io), 41 PA04 (io), 42 PA05 (io), 43 PA06 (io), 44 PA07 (io), 45 PA08 (io), 46 PA09 (io), 50 PA19 (io)
part B pins: 39 PB00 (io), 40 PB01 (io)
part C pins: 16 PC02 (io), 17 PC03 (io), 19 PC04 (io), 20 PC05 (io), 21 PC15 (io), 22 PC16 (io), 23 PC17 (io), 24 PC18 (io), 25 PC19 (io), 26 PC20 (io), 27 PC21 (io), 28 PC22 (io)
part D pins: 1 CAN_H (io), 2 CAN_L (io), 4 PD03 (io), 5 PD02 (io), 6 PD11 (io), 7 PD12 (io), 8 PD13 (io), 9 PD14 (io), 10 PD21 (io), 29 PD00 (io), 30 PD01 (io), 37 PD29 (io), 38 PD30 (io)
part E pins: 3 RST (power), 11 5VDC (power), 12 5VDC (power), 13 GND (power), 14 GND (power), 15 AGND (power), 32 ADCREF (power), 33 A5VDC (power)

## MCM_2_3
designator U
32-bit AVR UC3 C Series Microcontroller, 64KB Flash, 16KB SRAM, 81 GPIO pins, Industrial Grade, 100-Pin TQFP, Tray
footprint MCM_2_X
part A pins: 11 TCK (io), 12 TDI (io), 13 TDO (io), 14 TMS (io), 31 PA23 (io), 34 PA20 (io), 35 PA21 (io), 36 PA22 (io), 41 PA04 (io), 42 PA05 (io), 43 PA06 (io), 44 PA07 (io), 45 PA08 (io), 46 PA09 (io), 50 PA19 (io)
part B pins: 39 PB00 (io), 40 PB01 (io)
part C pins: 16 PC02 (io), 17 PC03 (io), 19 PC04 (io), 20 PC05 (io), 21 PC15 (io), 22 PC16 (io), 23 PC17 (io), 24 PC18 (io), 25 PC19 (io), 26 PC20 (io), 27 PC21 (io), 28 PC22 (io)
part D pins: 1 CAN_H (io), 2 CAN_L (io), 4 PD03 (io), 5 PD02 (io), 6 PD11 (io), 7 PD12 (io), 8 PD13 (io), 9 PD14 (io), 10 PD21 (io), 29 PD00 (io), 30 PD01 (io), 37 PD29 (io), 38 PD30 (io)
part E pins: 3 RST (power), 15 GND (power), 18 AGND (power), 32 ADCREF (power), 33 A5VDC (power), 47 5VDC (power), 48 5VDC (power), 49 GND (power)

## MCM_eiger
designator U*, comment MCM
32-bit AVR UC3 C Series Microcontroller, 64KB Flash, 16KB SRAM, 81 GPIO pins, Industrial Grade, 100-Pin TQFP, Tray
footprint MCM_eiger
part A pins: 24 PA25 (io), 26 PA24 (io), 28 PA23 (io), 30 PA22 (io), 32 PA21 (io), 34 PA20 (io), 44 PA19 (io), 46 RST (io), 48 PA11 (io), 50 PA10 (io), 52 PA09 (io), 54 PA08 (io), 56 PA07 (io), 58 PA06 (io), 60 PA05 (io), 62 PA04 (io), 70 TMS (io), 72 TDO (io), 74 TDI (io), 76 TCK (io)
part B pins: 14 PB23 (io), 16 PB22 (io), 18 PB21 (io), 20 PB20 (io), 22 PB19 (io), 64 PB06 (io), 66 PB05 (io), 68 PB04 (io), 71 PB00 (io), 73 PB01 (io), 75 PB02 (io), 78 PB03 (io)
part C pins: 2 PC02 (io), 3 PC05 (io), 4 PC03 (io), 5 PC06 (io), 6 PC04 (io), 7 PC07 (io), 9 PC11 (io), 10 PC01 (io), 11 PC12 (io), 12 PC00 (io), 13 PC13 (io), 15 PC14 (io), 17 PC15 (io), 19 PC16 (io), 21 PC17 (io), 23 PC18 (io), 25 PC19 (io), 27 PC20 (io), 29 PC21 (io), 31 PC22 (io), 33 PC23 (io), 35 PC24 (io), 36 PC31 (io)
part D pins: 38 PD00 (io), 40 PD01 (io), 45 PD02 (io), 47 PD03 (io), 49 PD07 (io), 51 PD08 (io), 53 PD11 (io), 55 PD12 (io), 57 PD13 (io), 59 PD14 (io), 61 PD21 (io), 63 PD22 (io), 65 PD24 (io), 67 PD29 (io), 69 PD30 (io), 77 CAN_H (io), 79 CAN_L (io)
part E pins: 1 GND (power), 37 5VDC (power), 39 5VDC (power), 41 A5VDC (power), 42 AGND (power), 43 ADCREF (power), 80 GND (power)

## MCM_fluela
designator U
32-bit AVR UC3 C Series Microcontroller, 64KB Flash, 16KB SRAM, 81 GPIO pins, Industrial Grade, 100-Pin TQFP, Tray
footprint MCM_fluela
part A pins: 17 PA19 (io), 19 PA25 (io), 21 PA23 (io), 23 PA21 (io), 24 PA24 (io), 25 PA20 (io), 26 PA22 (io), 27 PA13 (io), 28 PA11 (io), 29 PA10 (io), 30 PA09 (io), 31 PA08 (io), 32 PA07 (io), 33 PA06 (io), 34 PA05 (io), 35 PA04 (io)
part B pins: 2 GND (power), 4 GND (power), 6 5VDC (power), 7 ADCREF (power), 8 5VDC (power), 9 AGND (power), 10 A5VDC (power)
part C pins: 11 PB22 (io), 12 PB23 (io), 18 PB20 (io), 20 PB21 (io), 22 PB19 (io), 36 PB05 (io), 43 PB01 (io), 44 PB00 (io), 45 PB03 (io), 46 PB02 (io)
part D pins: 1 PC06 (io), 3 PC05 (io), 5 PC04 (io), 13 PC02 (io), 14 PC01 (io), 15 PC03 (io), 16 PC00 (io), 47 PC11 (io), 48 PC07 (io), 49 PC13 (io), 50 PC12 (io), 51 PC15 (io), 52 PC14 (io), 53 PC17 (io), 54 PC16 (io), 55 PC19 (io), 56 PC18 (io), 57 PC23 (io), 58 PC20 (io), 59 PC31 (io), 60 PC24 (io)
part E pins: 37 CAN_L (io), 38 CAN_H (io), 39 PD24 (io), 40 PD22 (io), 41 PD30 (io), 42 PD29 (io), 61 PD01 (io), 62 PD00 (io), 63 PD03 (io), 64 PD02 (io), 65 PD08 (io), 66 PD07 (io), 67 PD12 (io), 68 PD11 (io), 69 PD14 (io), 70 PD13 (io)

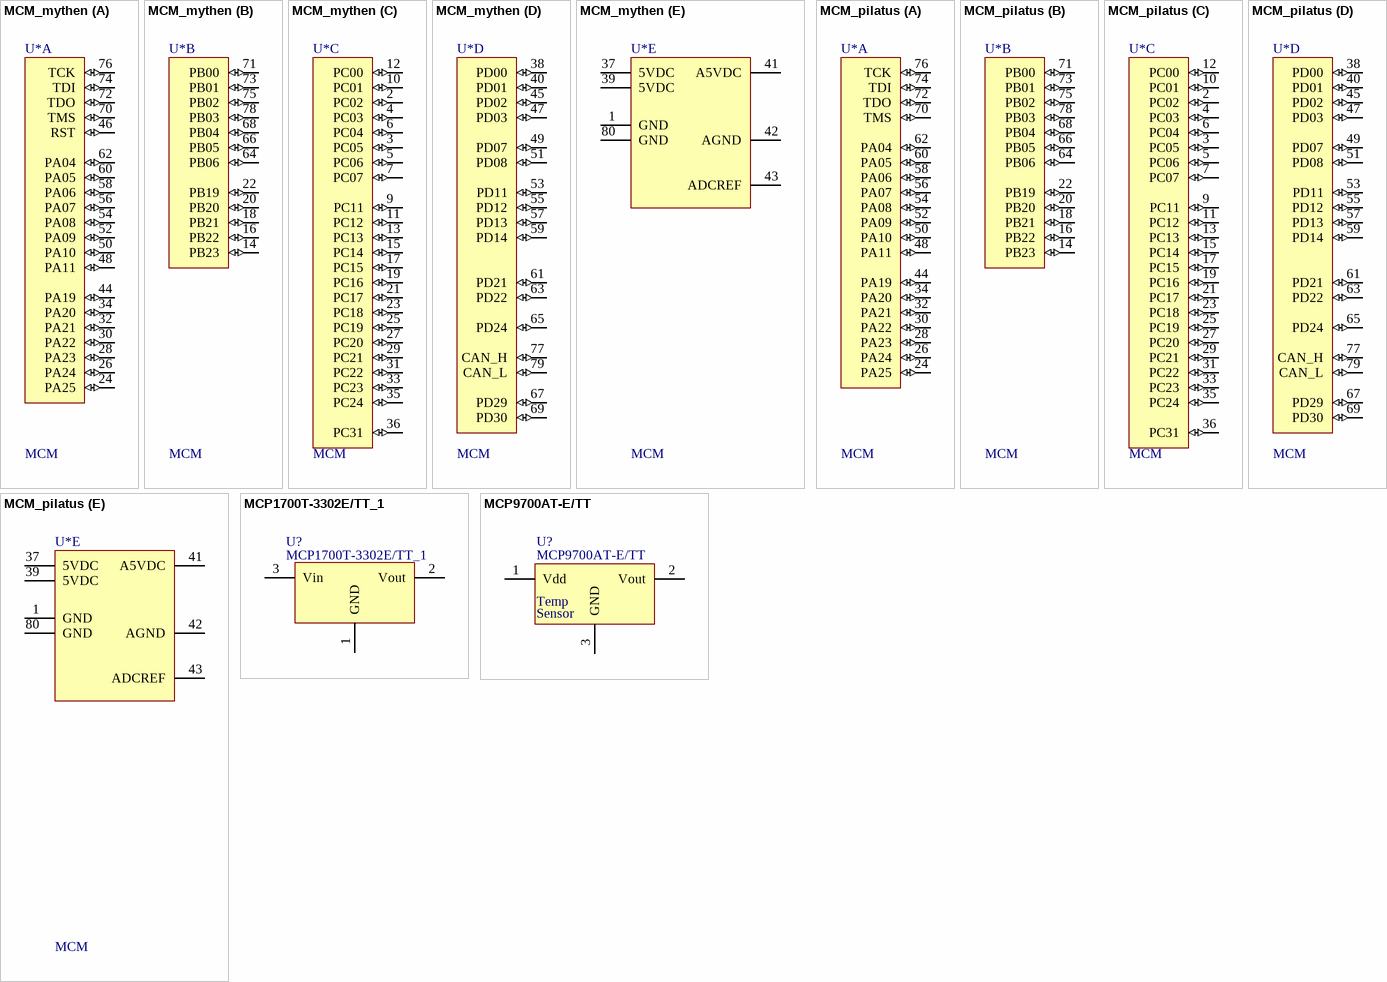
[diagram p11: symbols MCM_mythen to MCP9700AT-E/TT]

## MCM_mythen
designator U*, comment MCM
32-bit AVR UC3 C Series Microcontroller, 64KB Flash, 16KB SRAM, 81 GPIO pins, Industrial Grade, 100-Pin TQFP, Tray
footprint MCM_mythen
part A pins: 24 PA25 (io), 26 PA24 (io), 28 PA23 (io), 30 PA22 (io), 32 PA21 (io), 34 PA20 (io), 44 PA19 (io), 46 RST (io), 48 PA11 (io), 50 PA10 (io), 52 PA09 (io), 54 PA08 (io), 56 PA07 (io), 58 PA06 (io), 60 PA05 (io), 62 PA04 (io), 70 TMS (io), 72 TDO (io), 74 TDI (io), 76 TCK (io)
part B pins: 14 PB23 (io), 16 PB22 (io), 18 PB21 (io), 20 PB20 (io), 22 PB19 (io), 64 PB06 (io), 66 PB05 (io), 68 PB04 (io), 71 PB00 (io), 73 PB01 (io), 75 PB02 (io), 78 PB03 (io)
part C pins: 2 PC02 (io), 3 PC05 (io), 4 PC03 (io), 5 PC06 (io), 6 PC04 (io), 7 PC07 (io), 9 PC11 (io), 10 PC01 (io), 11 PC12 (io), 12 PC00 (io), 13 PC13 (io), 15 PC14 (io), 17 PC15 (io), 19 PC16 (io), 21 PC17 (io), 23 PC18 (io), 25 PC19 (io), 27 PC20 (io), 29 PC21 (io), 31 PC22 (io), 33 PC23 (io), 35 PC24 (io), 36 PC31 (io)
part D pins: 38 PD00 (io), 40 PD01 (io), 45 PD02 (io), 47 PD03 (io), 49 PD07 (io), 51 PD08 (io), 53 PD11 (io), 55 PD12 (io), 57 PD13 (io), 59 PD14 (io), 61 PD21 (io), 63 PD22 (io), 65 PD24 (io), 67 PD29 (io), 69 PD30 (io), 77 CAN_H (io), 79 CAN_L (io)
part E pins: 1 GND (power), 37 5VDC (power), 39 5VDC (power), 41 A5VDC (power), 42 AGND (power), 43 ADCREF (power), 80 GND (power)

## MCM_pilatus
designator U*, comment MCM
32-bit AVR UC3 C Series Microcontroller, 64KB Flash, 16KB SRAM, 81 GPIO pins, Industrial Grade, 100-Pin TQFP, Tray
footprint MCM_pilatus
part A pins: 24 PA25 (io), 26 PA24 (io), 28 PA23 (io), 30 PA22 (io), 32 PA21 (io), 34 PA20 (io), 44 PA19 (io), 48 PA11 (io), 50 PA10 (io), 52 PA09 (io), 54 PA08 (io), 56 PA07 (io), 58 PA06 (io), 60 PA05 (io), 62 PA04 (io), 70 TMS (io), 72 TDO (io), 74 TDI (io), 76 TCK (io)
part B pins: 14 PB23 (io), 16 PB22 (io), 18 PB21 (io), 20 PB20 (io), 22 PB19 (io), 64 PB06 (io), 66 PB05 (io), 68 PB04 (io), 71 PB00 (io), 73 PB01 (io), 75 PB02 (io), 78 PB03 (io)
part C pins: 2 PC02 (io), 3 PC05 (io), 4 PC03 (io), 5 PC06 (io), 6 PC04 (io), 7 PC07 (io), 9 PC11 (io), 10 PC01 (io), 11 PC12 (io), 12 PC00 (io), 13 PC13 (io), 15 PC14 (io), 17 PC15 (io), 19 PC16 (io), 21 PC17 (io), 23 PC18 (io), 25 PC19 (io), 27 PC20 (io), 29 PC21 (io), 31 PC22 (io), 33 PC23 (io), 35 PC24 (io), 36 PC31 (io)
part D pins: 38 PD00 (io), 40 PD01 (io), 45 PD02 (io), 47 PD03 (io), 49 PD07 (io), 51 PD08 (io), 53 PD11 (io), 55 PD12 (io), 57 PD13 (io), 59 PD14 (io), 61 PD21 (io), 63 PD22 (io), 65 PD24 (io), 67 PD29 (io), 69 PD30 (io), 77 CAN_H (io), 79 CAN_L (io)
part E pins: 1 GND (power), 37 5VDC (power), 39 5VDC (power), 41 A5VDC (power), 42 AGND (power), 43 ADCREF (power), 80 GND (power)

## MCP1700T-3302E/TT_1
designator U?
Sapnnungsregler 3.3V, 250mA
pins: 1 GND (power), 2 Vout (power), 3 Vin (power)

## MCP9700AT-E/TT
designator U?
Analog Temperature Sensor
footprint SOT-23
pins: 1 Vdd (power), 2 Vout (power), 3 GND (power)
text: Temp; Sensor

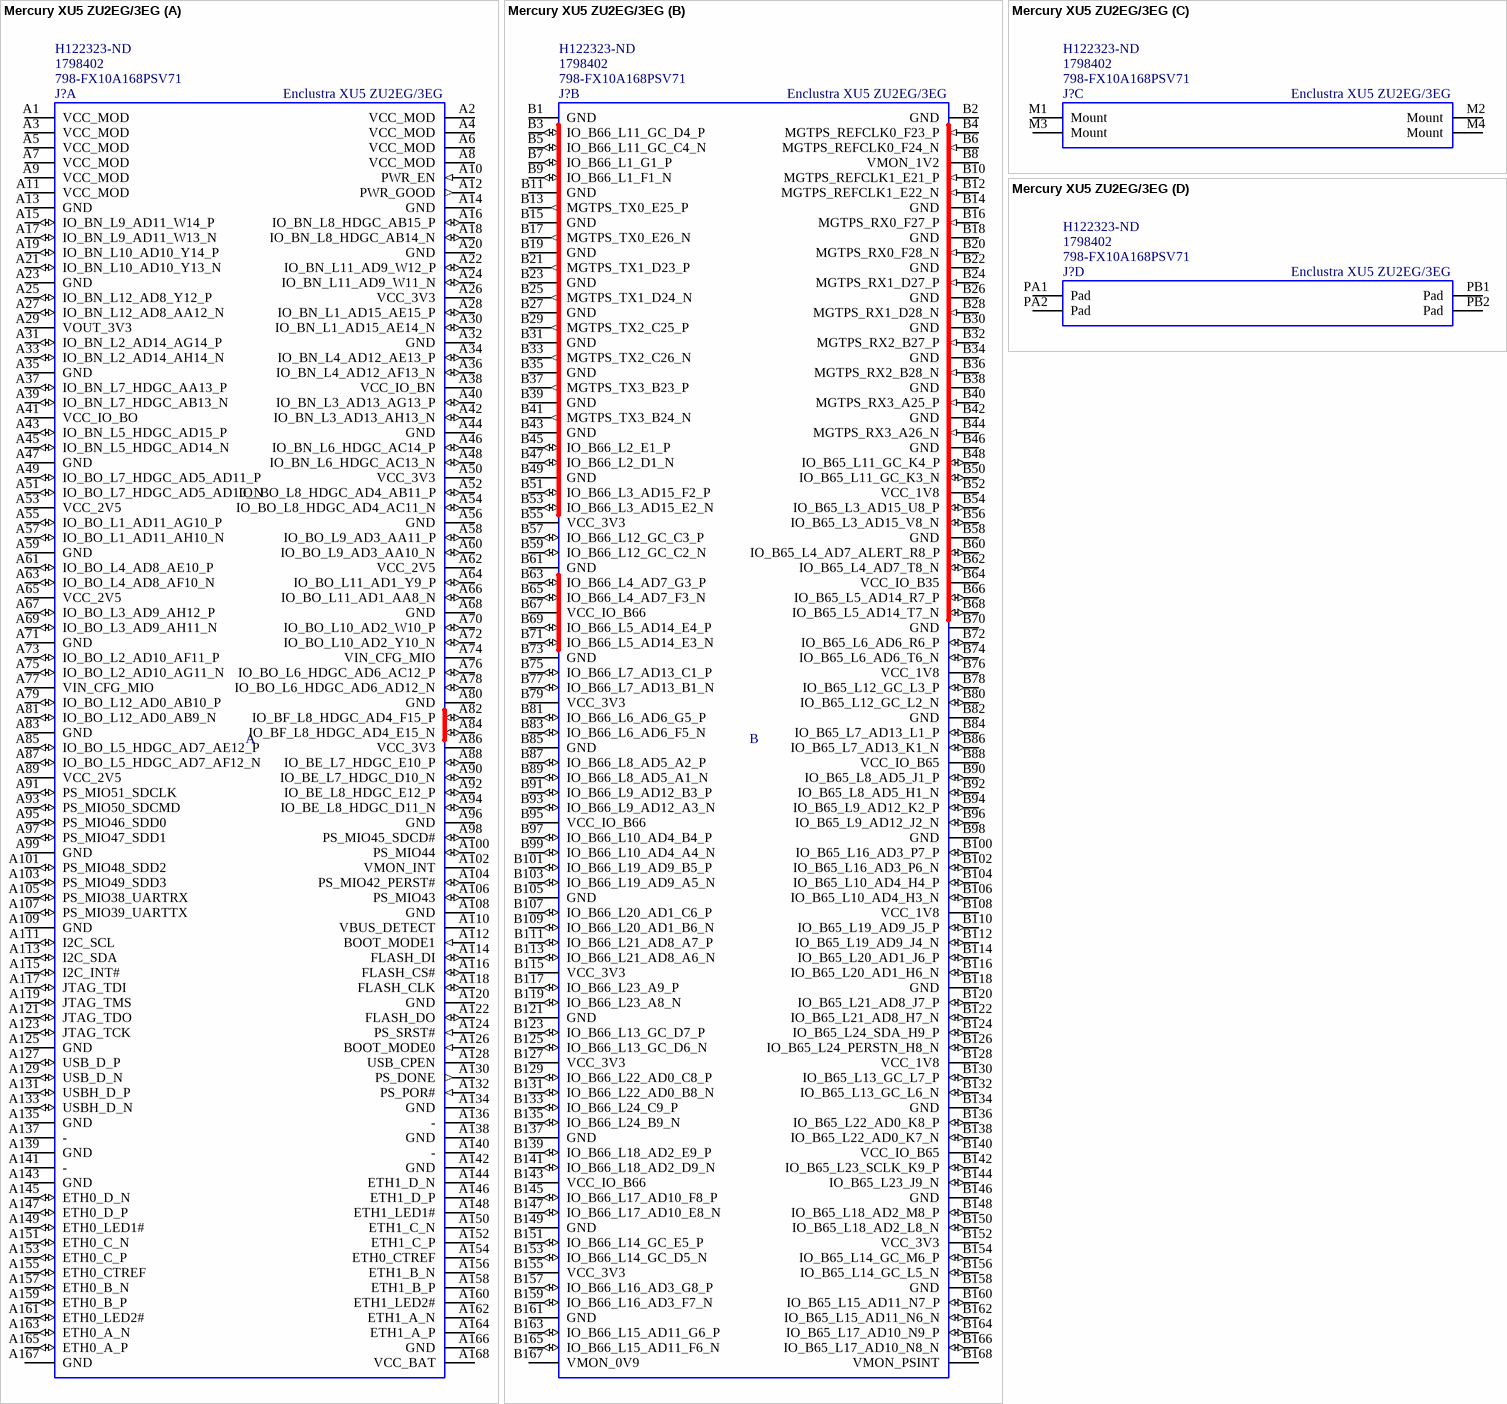
[diagram p12: symbol Mercury XU5 ZU2EG/3EG]

## Mercury XU5 ZU2EG/3EG
designator J?, comment Enclustra XU5 ZU2EG/3EG  Supplier Part Number 1: 798-FX10A168PSV71  Supplier Part Number 2: 1798402  Supplier Part Number 3: H122323-ND
SoC module from Enclustra based on the Xilinx Ultrscale+ ZU2EG/3EG / Red marked I/Os must not be used if compatibility with other variants of the XU5 need to be ensured. (4EV, 5EV, 5EV-X1); Value: Enclustra XU5 ZU2EG/3EG; Supplier 1: Mouser; Supplier 2: Farnell; Supplier 3: Digi-Key
footprint Mercury XU5 (Enclustra Mercury XU5)
part A pins: A1 VCC_MOD (power), A2 VCC_MOD (power), A3 VCC_MOD (power), A4 VCC_MOD (power), A5 VCC_MOD (power), A6 VCC_MOD (power), A7 VCC_MOD (power), A8 VCC_MOD (power), A9 VCC_MOD (power), A10 PWR_EN (in), A11 VCC_MOD (power), A12 PWR_GOOD (out), A13 GND (power), A14 GND (power), A15 IO_BN_L9_AD11_W14_P (io), A16 IO_BN_L8_HDGC_AB15_P (io), A17 IO_BN_L9_AD11_W13_N (io), A18 IO_BN_L8_HDGC_AB14_N (io), A19 IO_BN_L10_AD10_Y14_P (io), A20 GND (power), A21 IO_BN_L10_AD10_Y13_N (io), A22 IO_BN_L11_AD9_W12_P (io), A23 GND (power), A24 IO_BN_L11_AD9_W11_N (io), A25 IO_BN_L12_AD8_Y12_P (io), A26 VCC_3V3 (power), A27 IO_BN_L12_AD8_AA12_N (io), A28 IO_BN_L1_AD15_AE15_P (io), A29 VOUT_3V3 (power), A30 IO_BN_L1_AD15_AE14_N (io), A31 IO_BN_L2_AD14_AG14_P (io), A32 GND (power), A33 IO_BN_L2_AD14_AH14_N (io), A34 IO_BN_L4_AD12_AE13_P (io), A35 GND (power), A36 IO_BN_L4_AD12_AF13_N (io), A37 IO_BN_L7_HDGC_AA13_P (io), A38 VCC_IO_BN (power), A39 IO_BN_L7_HDGC_AB13_N (io), A40 IO_BN_L3_AD13_AG13_P (io), A41 VCC_IO_BO (power), A42 IO_BN_L3_AD13_AH13_N (io), A43 IO_BN_L5_HDGC_AD15_P (io), A44 GND (power), A45 IO_BN_L5_HDGC_AD14_N (io), A46 IO_BN_L6_HDGC_AC14_P (io), A47 GND (power), A48 IO_BN_L6_HDGC_AC13_N (io), A49 IO_BO_L7_HDGC_AD5_AD11_P (io), A50 VCC_3V3 (power), A51 IO_BO_L7_HDGC_AD5_AD10_N (io), A52 IO_BO_L8_HDGC_AD4_AB11_P (io), A53 VCC_2V5 (power), A54 IO_BO_L8_HDGC_AD4_AC11_N (io), A55 IO_BO_L1_AD11_AG10_P (io), A56 GND (power), A57 IO_BO_L1_AD11_AH10_N (io), A58 IO_BO_L9_AD3_AA11_P (io), A59 GND (power), A60 IO_BO_L9_AD3_AA10_N (io), A61 IO_BO_L4_AD8_AE10_P (io), A62 VCC_2V5 (power), A63 IO_BO_L4_AD8_AF10_N (io), A64 IO_BO_L11_AD1_Y9_P (io), A65 VCC_2V5 (power), A66 IO_BO_L11_AD1_AA8_N (io), A67 IO_BO_L3_AD9_AH12_P (io), A68 GND (power), A69 IO_BO_L3_AD9_AH11_N (io), A70 IO_BO_L10_AD2_W10_P (io), A71 GND (power), A72 IO_BO_L10_AD2_Y10_N (io), A73 IO_BO_L2_AD10_AF11_P (io), A74 VIN_CFG_MIO (power), A75 IO_BO_L2_AD10_AG11_N (io), A76 IO_BO_L6_HDGC_AD6_AC12_P (io), A77 VIN_CFG_MIO (power), A78 IO_BO_L6_HDGC_AD6_AD12_N (io), A79 IO_BO_L12_AD0_AB10_P (io), A80 GND (power), A81 IO_BO_L12_AD0_AB9_N (io), A82 IO_BF_L8_HDGC_AD4_F15_P (io), A83 GND (power), A84 IO_BF_L8_HDGC_AD4_E15_N (io), A85 IO_BO_L5_HDGC_AD7_AE12_P (io), A86 VCC_3V3 (power), A87 IO_BO_L5_HDGC_AD7_AF12_N (io), A88 IO_BE_L7_HDGC_E10_P (io), A89 VCC_2V5 (power), A90 IO_BE_L7_HDGC_D10_N (io), A91 PS_MIO51_SDCLK (io), A92 IO_BE_L8_HDGC_E12_P (io), A93 PS_MIO50_SDCMD (io), A94 IO_BE_L8_HDGC_D11_N (io), A95 PS_MIO46_SDD0 (io), A96 GND (power), A97 PS_MIO47_SDD1 (io), A98 PS_MIO45_SDCD# (io), A99 GND (power), A100 PS_MIO44 (io), A101 PS_MIO48_SDD2 (io), A102 VMON_INT, A103 PS_MIO49_SDD3 (io), A104 PS_MIO42_PERST# (io), A105 PS_MIO38_UARTRX (io), A106 PS_MIO43 (io), A107 PS_MIO39_UARTTX (io), A108 GND (power), A109 GND (power), A110 VBUS_DETECT, A111 I2C_SCL (io), A112 BOOT_MODE1 (in), A113 I2C_SDA (io), A114 FLASH_DI (io), A115 I2C_INT# (io), A116 FLASH_CS# (io), A117 JTAG_TDI (io), A118 FLASH_CLK (io), A119 JTAG_TMS (io), A120 GND (power), A121 JTAG_TDO (io), A122 FLASH_DO (io), A123 JTAG_TCK (io), A124 PS_SRST# (in), A125 GND (power), A126 BOOT_MODE0 (in), A127 USB_D_P (io), A128 USB_CPEN, A129 USB_D_N (io), A130 PS_DONE (out), A131 USBH_D_P (io), A132 PS_POR# (in), A133 USBH_D_N (io), A134 GND (power), A135 GND (power), A136 -, A137 -, A138 GND (power), A139 GND (power), A140 -, A141 -, A142 GND (power), A143 GND (power), A144 ETH1_D_N, A145 ETH0_D_N (io), A146 ETH1_D_P, A147 ETH0_D_P (io), A148 ETH1_LED1#, A149 ETH0_LED1# (io), A150 ETH1_C_N, A151 ETH0_C_N (io), A152 ETH1_C_P, A153 ETH0_C_P (io), A154 ETH0_CTREF, A155 ETH0_CTREF (io), A156 ETH1_B_N, A157 ETH0_B_N (io), A158 ETH1_B_P, A159 ETH0_B_P (io), A160 ETH1_LED2#, A161 ETH0_LED2# (io), A162 ETH1_A_N, A163 ETH0_A_N (io), A164 ETH1_A_P, A165 ETH0_A_P (io), A166 GND (power), A167 GND (power), A168 VCC_BAT (power)
part B pins: B1 GND (power), B2 GND (power), B3 IO_B66_L11_GC_D4_P (io), B4 MGTPS_REFCLK0_F23_P (in), B5 IO_B66_L11_GC_C4_N (io), B6 MGTPS_REFCLK0_F24_N (in), B7 IO_B66_L1_G1_P (io), B8 VMON_1V2, B9 IO_B66_L1_F1_N (io), B10 MGTPS_REFCLK1_E21_P (in), B11 GND (power), B12 MGTPS_REFCLK1_E22_N (in), B13 MGTPS_TX0_E25_P (out), B14 GND (power), B15 GND (power), B16 MGTPS_RX0_F27_P (in), B17 MGTPS_TX0_E26_N (out), B18 GND (power), B19 GND (power), B20 MGTPS_RX0_F28_N (in), B21 MGTPS_TX1_D23_P (out), B22 GND (power), B23 GND (power), B24 MGTPS_RX1_D27_P (in), B25 MGTPS_TX1_D24_N (out), B26 GND (power), B27 GND (power), B28 MGTPS_RX1_D28_N (in), B29 MGTPS_TX2_C25_P (out), B30 GND (power), B31 GND (power), B32 MGTPS_RX2_B27_P (in), B33 MGTPS_TX2_C26_N (out), B34 GND (power), B35 GND (power), B36 MGTPS_RX2_B28_N (in), B37 MGTPS_TX3_B23_P (out), B38 GND (power), B39 GND (power), B40 MGTPS_RX3_A25_P (in), B41 MGTPS_TX3_B24_N (out), B42 GND (power), B43 GND (power), B44 MGTPS_RX3_A26_N (in), B45 IO_B66_L2_E1_P (io), B46 GND (power), B47 IO_B66_L2_D1_N (io), B48 IO_B65_L11_GC_K4_P (io), B49 GND (power), B50 IO_B65_L11_GC_K3_N (io), B51 IO_B66_L3_AD15_F2_P (io), B52 VCC_1V8 (power), B53 IO_B66_L3_AD15_E2_N (io), B54 IO_B65_L3_AD15_U8_P (io), B55 VCC_3V3 (power), B56 IO_B65_L3_AD15_V8_N (io), B57 IO_B66_L12_GC_C3_P (io), B58 GND (power), B59 IO_B66_L12_GC_C2_N (io), B60 IO_B65_L4_AD7_ALERT_R8_P (io), B61 GND (power), B62 IO_B65_L4_AD7_T8_N (io), B63 IO_B66_L4_AD7_G3_P (io), B64 VCC_IO_B35 (power), B65 IO_B66_L4_AD7_F3_N (io), B66 IO_B65_L5_AD14_R7_P (io), B67 VCC_IO_B66 (power), B68 IO_B65_L5_AD14_T7_N (io), B69 IO_B66_L5_AD14_E4_P (io), B70 GND (power), B71 IO_B66_L5_AD14_E3_N (io), B72 IO_B65_L6_AD6_R6_P (io), B73 GND (power), B74 IO_B65_L6_AD6_T6_N (io), B75 IO_B66_L7_AD13_C1_P (io), B76 VCC_1V8 (power), B77 IO_B66_L7_AD13_B1_N (io), B78 IO_B65_L12_GC_L3_P (io), B79 VCC_3V3 (power), B80 IO_B65_L12_GC_L2_N (io), B81 IO_B66_L6_AD6_G5_P (io), B82 GND (power), B83 IO_B66_L6_AD6_F5_N (io), B84 IO_B65_L7_AD13_L1_P (io), B85 GND (power), B86 IO_B65_L7_AD13_K1_N (io), B87 IO_B66_L8_AD5_A2_P (io), B88 VCC_IO_B65 (power), B89 IO_B66_L8_AD5_A1_N (io), B90 IO_B65_L8_AD5_J1_P (io), B91 IO_B66_L9_AD12_B3_P (io), B92 IO_B65_L8_AD5_H1_N (io), B93 IO_B66_L9_AD12_A3_N (io), B94 IO_B65_L9_AD12_K2_P (io), B95 VCC_IO_B66 (power), B96 IO_B65_L9_AD12_J2_N (io), B97 IO_B66_L10_AD4_B4_P (io), B98 GND (power), B99 IO_B66_L10_AD4_A4_N (io), B100 IO_B65_L16_AD3_P7_P (io), B101 IO_B66_L19_AD9_B5_P (io), B102 IO_B65_L16_AD3_P6_N (io), B103 IO_B66_L19_AD9_A5_N (io), B104 IO_B65_L10_AD4_H4_P (io), B105 GND (power), B106 IO_B65_L10_AD4_H3_N (io), B107 IO_B66_L20_AD1_C6_P (io), B108 VCC_1V8 (power), B109 IO_B66_L20_AD1_B6_N (io), B110 IO_B65_L19_AD9_J5_P (io), B111 IO_B66_L21_AD8_A7_P (io), B112 IO_B65_L19_AD9_J4_N (io), B113 IO_B66_L21_AD8_A6_N (io), B114 IO_B65_L20_AD1_J6_P (io), B115 VCC_3V3 (power), B116 IO_B65_L20_AD1_H6_N (io), B117 IO_B66_L23_A9_P (io), B118 GND (power), B119 IO_B66_L23_A8_N (io), B120 IO_B65_L21_AD8_J7_P (io), B121 GND (power), B122 IO_B65_L21_AD8_H7_N (io), B123 IO_B66_L13_GC_D7_P (io), B124 IO_B65_L24_SDA_H9_P (io), B125 IO_B66_L13_GC_D6_N (io), B126 IO_B65_L24_PERSTN_H8_N (io), B127 VCC_3V3 (power), B128 VCC_1V8 (power), B129 IO_B66_L22_AD0_C8_P (io), B130 IO_B65_L13_GC_L7_P (io), B131 IO_B66_L22_AD0_B8_N (io), B132 IO_B65_L13_GC_L6_N (io), B133 IO_B66_L24_C9_P (io), B134 GND (power), B135 IO_B66_L24_B9_N (io), B136 IO_B65_L22_AD0_K8_P (io), B137 GND (power), B138 IO_B65_L22_AD0_K7_N (io), B139 IO_B66_L18_AD2_E9_P (io), B140 VCC_IO_B65 (power), B141 IO_B66_L18_AD2_D9_N (io), B142 IO_B65_L23_SCLK_K9_P (io), B143 VCC_IO_B66 (power), B144 IO_B65_L23_J9_N (io), B145 IO_B66_L17_AD10_F8_P (io), B146 GND (power), B147 IO_B66_L17_AD10_E8_N (io), B148 IO_B65_L18_AD2_M8_P (io), B149 GND (power), B150 IO_B65_L18_AD2_L8_N (io), B151 IO_B66_L14_GC_E5_P (io), B152 VCC_3V3 (power), B153 IO_B66_L14_GC_D5_N (io), B154 IO_B65_L14_GC_M6_P (io), B155 VCC_3V3 (power), B156 IO_B65_L14_GC_L5_N (io), B157 IO_B66_L16_AD3_G8_P (io), B158 GND (power), B159 IO_B66_L16_AD3_F7_N (io), B160 IO_B65_L15_AD11_N7_P (io), B161 GND (power), B162 IO_B65_L15_AD11_N6_N (io), B163 IO_B66_L15_AD11_G6_P (io), B164 IO_B65_L17_AD10_N9_P (io), B165 IO_B66_L15_AD11_F6_N (io), B166 IO_B65_L17_AD10_N8_N (io), B167 VMON_0V9, B168 VMON_PSINT
part C pins: M1 Mount, M2 Mount, M3 Mount, M4 Mount
part D pins: PA1 Pad, PA2 Pad, PB1 Pad, PB2 Pad
part A text: A
part B text: B

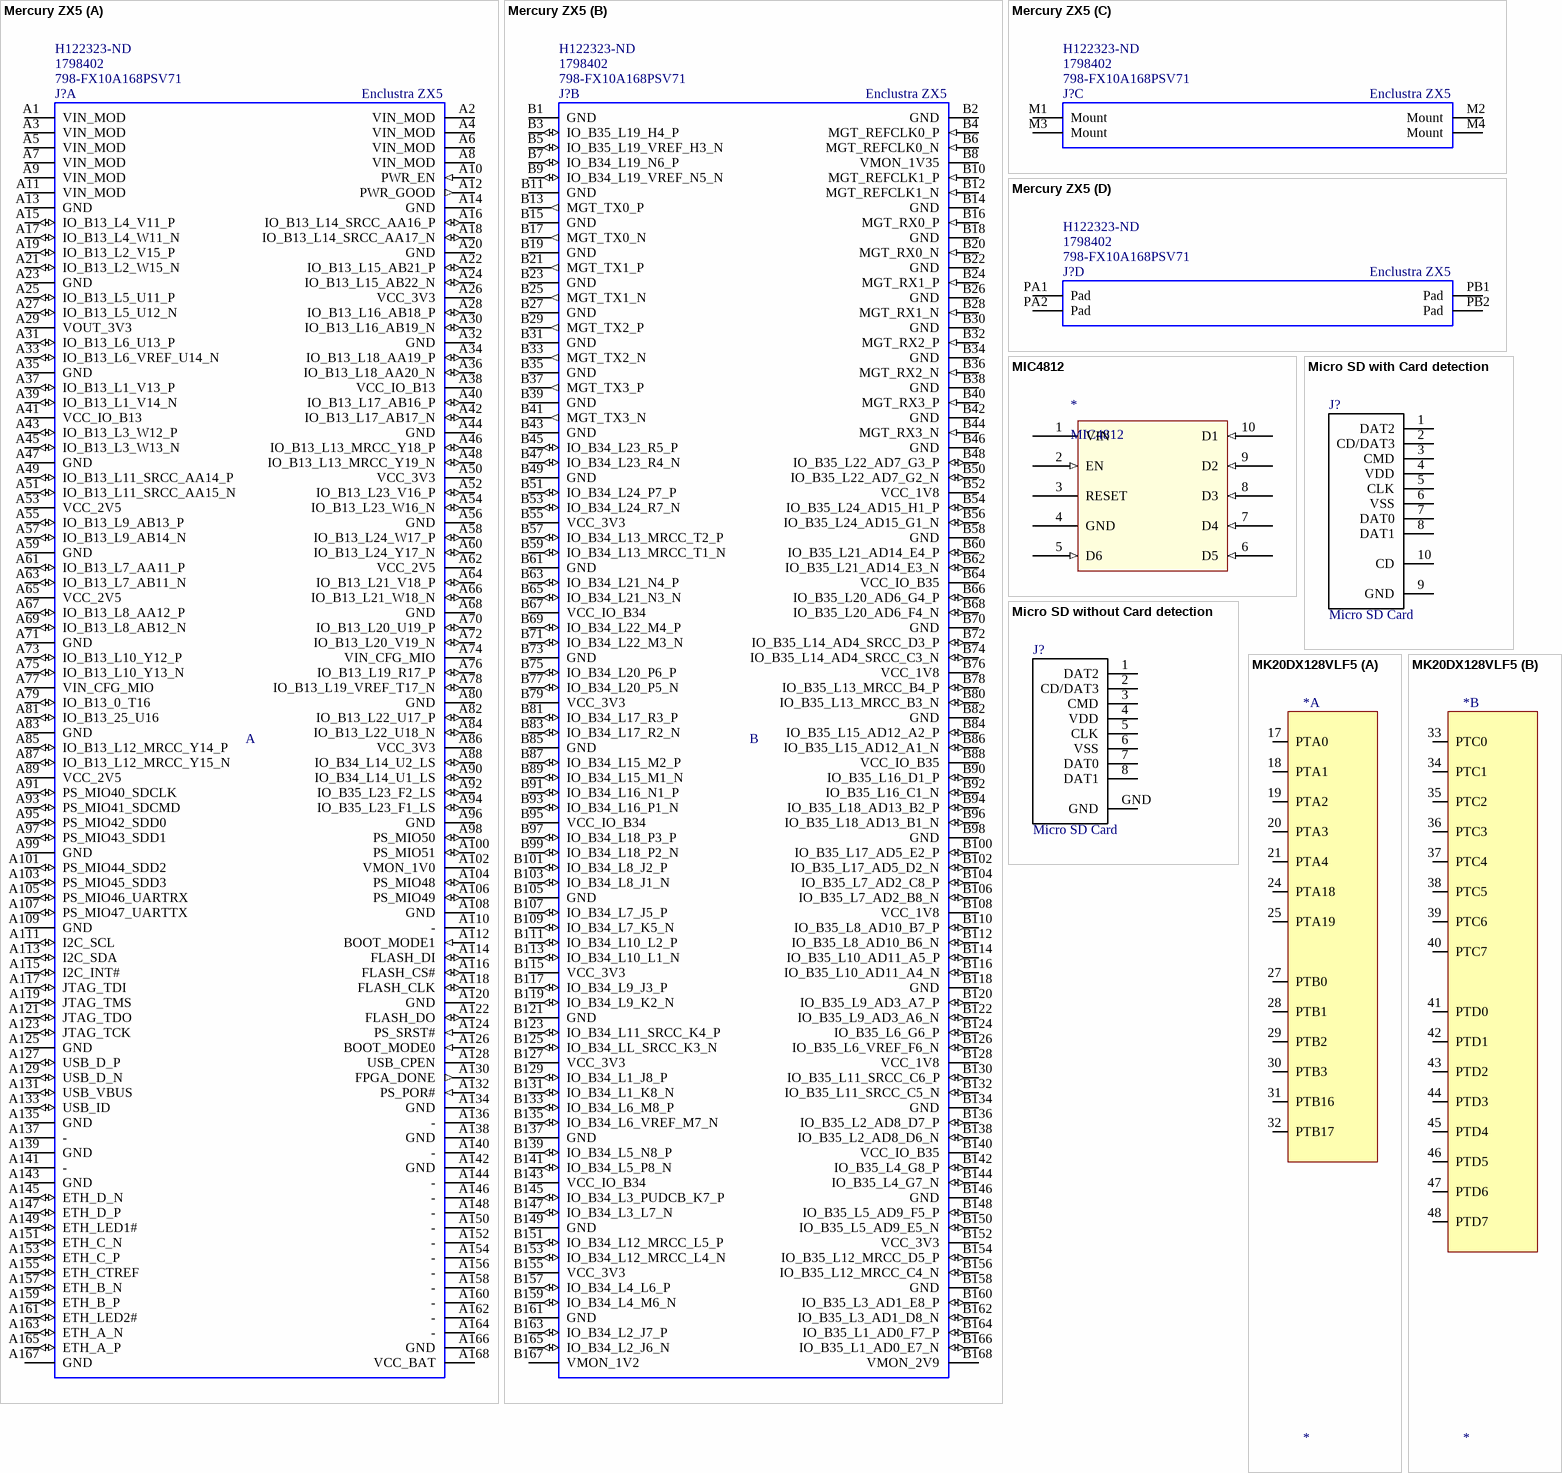
[diagram p13: symbols Mercury ZX5 to MK20DX128VLF5]

## Mercury ZX5
designator J?, comment Enclustra ZX5  Supplier Part Number 1: 798-FX10A168PSV71  Supplier Part Number 2: 1798402  Supplier Part Number 3: H122323-ND
Value: Enclustra ZX5; Supplier 1: Mouser; Supplier 2: Farnell; Supplier 3: Digi-Key
footprint Mercury ZX5 (Enclustra Mercury ZX5)
part A pins: A1 VIN_MOD (power), A2 VIN_MOD (power), A3 VIN_MOD (power), A4 VIN_MOD (power), A5 VIN_MOD (power), A6 VIN_MOD (power), A7 VIN_MOD (power), A8 VIN_MOD (power), A9 VIN_MOD (power), A10 PWR_EN (in), A11 VIN_MOD (power), A12 PWR_GOOD (out), A13 GND (power), A14 GND (power), A15 IO_B13_L4_V11_P (io), A16 IO_B13_L14_SRCC_AA16_P (io), A17 IO_B13_L4_W11_N (io), A18 IO_B13_L14_SRCC_AA17_N (io), A19 IO_B13_L2_V15_P (io), A20 GND (power), A21 IO_B13_L2_W15_N (io), A22 IO_B13_L15_AB21_P (io), A23 GND (power), A24 IO_B13_L15_AB22_N (io), A25 IO_B13_L5_U11_P (io), A26 VCC_3V3 (power), A27 IO_B13_L5_U12_N (io), A28 IO_B13_L16_AB18_P (io), A29 VOUT_3V3 (power), A30 IO_B13_L16_AB19_N (io), A31 IO_B13_L6_U13_P (io), A32 GND (power), A33 IO_B13_L6_VREF_U14_N (io), A34 IO_B13_L18_AA19_P (io), A35 GND (power), A36 IO_B13_L18_AA20_N (io), A37 IO_B13_L1_V13_P (io), A38 VCC_IO_B13 (power), A39 IO_B13_L1_V14_N (io), A40 IO_B13_L17_AB16_P (io), A41 VCC_IO_B13 (power), A42 IO_B13_L17_AB17_N (io), A43 IO_B13_L3_W12_P (io), A44 GND (power), A45 IO_B13_L3_W13_N (io), A46 IO_B13_L13_MRCC_Y18_P (io), A47 GND (power), A48 IO_B13_L13_MRCC_Y19_N (io), A49 IO_B13_L11_SRCC_AA14_P (io), A50 VCC_3V3 (power), A51 IO_B13_L11_SRCC_AA15_N (io), A52 IO_B13_L23_V16_P (io), A53 VCC_2V5 (power), A54 IO_B13_L23_W16_N (io), A55 IO_B13_L9_AB13_P (io), A56 GND (power), A57 IO_B13_L9_AB14_N (io), A58 IO_B13_L24_W17_P (io), A59 GND (power), A60 IO_B13_L24_Y17_N (io), A61 IO_B13_L7_AA11_P (io), A62 VCC_2V5 (power), A63 IO_B13_L7_AB11_N (io), A64 IO_B13_L21_V18_P (io), A65 VCC_2V5 (power), A66 IO_B13_L21_W18_N (io), A67 IO_B13_L8_AA12_P (io), A68 GND (power), A69 IO_B13_L8_AB12_N (io), A70 IO_B13_L20_U19_P (io), A71 GND (power), A72 IO_B13_L20_V19_N (io), A73 IO_B13_L10_Y12_P (io), A74 VIN_CFG_MIO (power), A75 IO_B13_L10_Y13_N (io), A76 IO_B13_L19_R17_P (io), A77 VIN_CFG_MIO (power), A78 IO_B13_L19_VREF_T17_N (io), A79 IO_B13_0_T16 (io), A80 GND (power), A81 IO_B13_25_U16 (io), A82 IO_B13_L22_U17_P (io), A83 GND (power), A84 IO_B13_L22_U18_N (io), A85 IO_B13_L12_MRCC_Y14_P (io), A86 VCC_3V3 (power), A87 IO_B13_L12_MRCC_Y15_N (io), A88 IO_B34_L14_U2_LS (io), A89 VCC_2V5 (power), A90 IO_B34_L14_U1_LS (io), A91 PS_MIO40_SDCLK (io), A92 IO_B35_L23_F2_LS (io), A93 PS_MIO41_SDCMD (io), A94 IO_B35_L23_F1_LS (io), A95 PS_MIO42_SDD0 (io), A96 GND (power), A97 PS_MIO43_SDD1 (io), A98 PS_MIO50 (io), A99 GND (power), A100 PS_MIO51 (io), A101 PS_MIO44_SDD2 (io), A102 VMON_1V0, A103 PS_MIO45_SDD3 (io), A104 PS_MIO48 (io), A105 PS_MIO46_UARTRX (io), A106 PS_MIO49 (io), A107 PS_MIO47_UARTTX (io), A108 GND (power), A109 GND (power), A110 -, A111 I2C_SCL (io), A112 BOOT_MODE1 (in), A113 I2C_SDA (io), A114 FLASH_DI (io), A115 I2C_INT# (io), A116 FLASH_CS# (io), A117 JTAG_TDI (io), A118 FLASH_CLK (io), A119 JTAG_TMS (io), A120 GND (power), A121 JTAG_TDO (io), A122 FLASH_DO (io), A123 JTAG_TCK (io), A124 PS_SRST# (in), A125 GND (power), A126 BOOT_MODE0 (in), A127 USB_D_P (io), A128 USB_CPEN, A129 USB_D_N (io), A130 FPGA_DONE (out), A131 USB_VBUS (io), A132 PS_POR# (in), A133 USB_ID (io), A134 GND (power), A135 GND (power), A136 -, A137 -, A138 GND (power), A139 GND (power), A140 -, A141 -, A142 GND (power), A143 GND (power), A144 -, A145 ETH_D_N (io), A146 -, A147 ETH_D_P (io), A148 -, A149 ETH_LED1# (io), A150 -, A151 ETH_C_N (io), A152 -, A153 ETH_C_P (io), A154 -, A155 ETH_CTREF (io), A156 -, A157 ETH_B_N (io), A158 -, A159 ETH_B_P (io), A160 -, A161 ETH_LED2# (io), A162 -, A163 ETH_A_N (io), A164 -, A165 ETH_A_P (io), A166 GND (power), A167 GND (power), A168 VCC_BAT (power)
part B pins: B1 GND (power), B2 GND (power), B3 IO_B35_L19_H4_P (io), B4 MGT_REFCLK0_P (in), B5 IO_B35_L19_VREF_H3_N (io), B6 MGT_REFCLK0_N (in), B7 IO_B34_L19_N6_P (io), B8 VMON_1V35, B9 IO_B34_L19_VREF_N5_N (io), B10 MGT_REFCLK1_P (in), B11 GND (power), B12 MGT_REFCLK1_N (in), B13 MGT_TX0_P (out), B14 GND (power), B15 GND (power), B16 MGT_RX0_P (in), B17 MGT_TX0_N (out), B18 GND (power), B19 GND (power), B20 MGT_RX0_N (in), B21 MGT_TX1_P (out), B22 GND (power), B23 GND (power), B24 MGT_RX1_P (in), B25 MGT_TX1_N (out), B26 GND (power), B27 GND (power), B28 MGT_RX1_N (in), B29 MGT_TX2_P (out), B30 GND (power), B31 GND (power), B32 MGT_RX2_P (in), B33 MGT_TX2_N (out), B34 GND (power), B35 GND (power), B36 MGT_RX2_N (in), B37 MGT_TX3_P (out), B38 GND (power), B39 GND (power), B40 MGT_RX3_P (in), B41 MGT_TX3_N (out), B42 GND (power), B43 GND (power), B44 MGT_RX3_N (in), B45 IO_B34_L23_R5_P (io), B46 GND (power), B47 IO_B34_L23_R4_N (io), B48 IO_B35_L22_AD7_G3_P (io), B49 GND (power), B50 IO_B35_L22_AD7_G2_N (io), B51 IO_B34_L24_P7_P (io), B52 VCC_1V8 (power), B53 IO_B34_L24_R7_N (io), B54 IO_B35_L24_AD15_H1_P (io), B55 VCC_3V3 (power), B56 IO_B35_L24_AD15_G1_N (io), B57 IO_B34_L13_MRCC_T2_P (io), B58 GND (power), B59 IO_B34_L13_MRCC_T1_N (io), B60 IO_B35_L21_AD14_E4_P (io), B61 GND (power), B62 IO_B35_L21_AD14_E3_N (io), B63 IO_B34_L21_N4_P (io), B64 VCC_IO_B35 (power), B65 IO_B34_L21_N3_N (io), B66 IO_B35_L20_AD6_G4_P (io), B67 VCC_IO_B34 (power), B68 IO_B35_L20_AD6_F4_N (io), B69 IO_B34_L22_M4_P (io), B70 GND (power), B71 IO_B34_L22_M3_N (io), B72 IO_B35_L14_AD4_SRCC_D3_P (io), B73 GND (power), B74 IO_B35_L14_AD4_SRCC_C3_N (io), B75 IO_B34_L20_P6_P (io), B76 VCC_1V8 (power), B77 IO_B34_L20_P5_N (io), B78 IO_B35_L13_MRCC_B4_P (io), B79 VCC_3V3 (power), B80 IO_B35_L13_MRCC_B3_N (io), B81 IO_B34_L17_R3_P (io), B82 GND (power), B83 IO_B34_L17_R2_N (io), B84 IO_B35_L15_AD12_A2_P (io), B85 GND (power), B86 IO_B35_L15_AD12_A1_N (io), B87 IO_B34_L15_M2_P (io), B88 VCC_IO_B35 (power), B89 IO_B34_L15_M1_N (io), B90 IO_B35_L16_D1_P (io), B91 IO_B34_L16_N1_P (io), B92 IO_B35_L16_C1_N (io), B93 IO_B34_L16_P1_N (io), B94 IO_B35_L18_AD13_B2_P (io), B95 VCC_IO_B34 (power), B96 IO_B35_L18_AD13_B1_N (io), B97 IO_B34_L18_P3_P (io), B98 GND (power), B99 IO_B34_L18_P2_N (io), B100 IO_B35_L17_AD5_E2_P (io), B101 IO_B34_L8_J2_P (io), B102 IO_B35_L17_AD5_D2_N (io), B103 IO_B34_L8_J1_N (io), B104 IO_B35_L7_AD2_C8_P (io), B105 GND (power), B106 IO_B35_L7_AD2_B8_N (io), B107 IO_B34_L7_J5_P (io), B108 VCC_1V8 (power), B109 IO_B34_L7_K5_N (io), B110 IO_B35_L8_AD10_B7_P (io), B111 IO_B34_L10_L2_P (io), B112 IO_B35_L8_AD10_B6_N (io), B113 IO_B34_L10_L1_N (io), B114 IO_B35_L10_AD11_A5_P (io), B115 VCC_3V3 (power), B116 IO_B35_L10_AD11_A4_N (io), B117 IO_B34_L9_J3_P (io), B118 GND (power), B119 IO_B34_L9_K2_N (io), B120 IO_B35_L9_AD3_A7_P (io), B121 GND (power), B122 IO_B35_L9_AD3_A6_N (io), B123 IO_B34_L11_SRCC_K4_P (io), B124 IO_B35_L6_G6_P (io), B125 IO_B34_LL_SRCC_K3_N (io), B126 IO_B35_L6_VREF_F6_N (io), B127 VCC_3V3 (power), B128 VCC_1V8 (power), B129 IO_B34_L1_J8_P (io), B130 IO_B35_L11_SRCC_C6_P (io), B131 IO_B34_L1_K8_N (io), B132 IO_B35_L11_SRCC_C5_N (io), B133 IO_B34_L6_M8_P (io), B134 GND (power), B135 IO_B34_L6_VREF_M7_N (io), B136 IO_B35_L2_AD8_D7_P (io), B137 GND (power), B138 IO_B35_L2_AD8_D6_N (io), B139 IO_B34_L5_N8_P (io), B140 VCC_IO_B35 (power), B141 IO_B34_L5_P8_N (io), B142 IO_B35_L4_G8_P (io), B143 VCC_IO_B34 (power), B144 IO_B35_L4_G7_N (io), B145 IO_B34_L3_PUDCB_K7_P (io), B146 GND (power), B147 IO_B34_L3_L7_N (io), B148 IO_B35_L5_AD9_F5_P (io), B149 GND (power), B150 IO_B35_L5_AD9_E5_N (io), B151 IO_B34_L12_MRCC_L5_P (io), B152 VCC_3V3 (power), B153 IO_B34_L12_MRCC_L4_N (io), B154 IO_B35_L12_MRCC_D5_P (io), B155 VCC_3V3 (power), B156 IO_B35_L12_MRCC_C4_N (io), B157 IO_B34_L4_L6_P (io), B158 GND (power), B159 IO_B34_L4_M6_N (io), B160 IO_B35_L3_AD1_E8_P (io), B161 GND (power), B162 IO_B35_L3_AD1_D8_N (io), B163 IO_B34_L2_J7_P (io), B164 IO_B35_L1_AD0_F7_P (io), B165 IO_B34_L2_J6_N (io), B166 IO_B35_L1_AD0_E7_N (io), B167 VMON_1V2, B168 VMON_2V9
part C pins: M1 Mount, M2 Mount, M3 Mount, M4 Mount
part D pins: PA1 Pad, PA2 Pad, PB1 Pad, PB2 Pad
part A text: A
part B text: B

## MIC4812
designator *
LED-Driver
pins: 1 VIN (power), 2 EN (in), 3 RESET, 4 GND (power), 5 D6 (in), 6 D5 (in), 7 D4 (in), 8 D3 (in), 9 D2 (in), 10 D1 (in)

## Micro SD with Card detection
designator J?, comment Micro SD Card
footprint U_SD_WE_693 071 010 811 (Micro SD Card Connector - Push & Push - With Card Detection 8 pins)
pins: 1 DAT2, 2 CD/DAT3, 3 CMD, 4 VDD, 5 CLK, 6 VSS, 7 DAT0, 8 DAT1, 9 GND, 10 CD

## Micro SD without Card detection
designator J?, comment Micro SD Card
footprint U_SD_WE_693 072 010 801 (WR-CRD - Micro SD Card Connector - Hinge - 8 pins)
pins: 1 DAT2, 2 CD/DAT3, 3 CMD, 4 VDD, 5 CLK, 6 VSS, 7 DAT0, 8 DAT1, GND

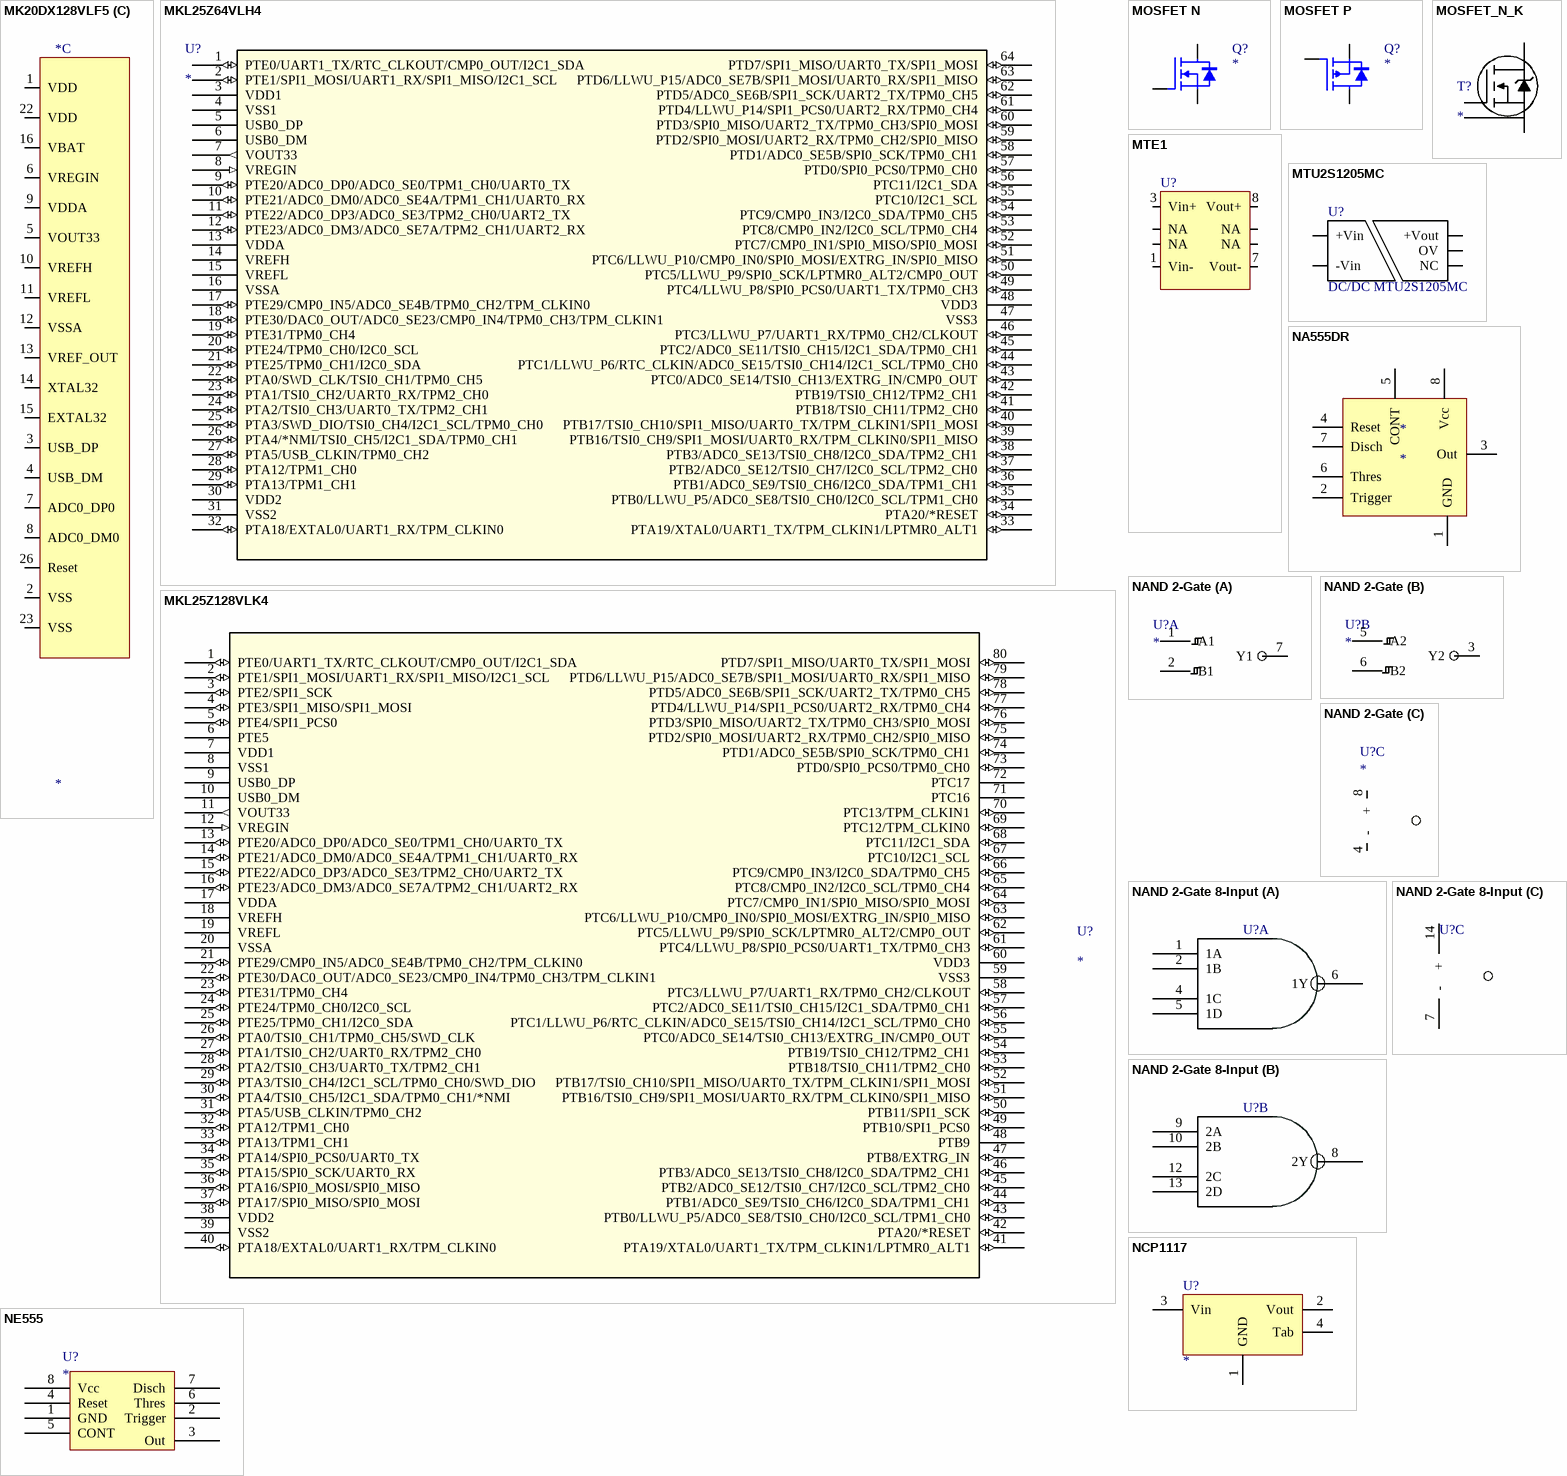
[diagram p14: symbols MK20DX128VLF5 to NE555]

## MK20DX128VLF5
designator *
footprint LQFP48_0.5
part A pins: 17 PTA0, 18 PTA1, 19 PTA2, 20 PTA3, 21 PTA4, 24 PTA18, 25 PTA19, 27 PTB0, 28 PTB1, 29 PTB2, 30 PTB3, 31 PTB16, 32 PTB17
part B pins: 33 PTC0, 34 PTC1, 35 PTC2, 36 PTC3, 37 PTC4, 38 PTC5, 39 PTC6, 40 PTC7, 41 PTD0, 42 PTD1, 43 PTD2, 44 PTD3, 45 PTD4, 46 PTD5, 47 PTD6, 48 PTD7
part C pins: 1 VDD, 2 VSS, 3 USB_DP, 4 USB_DM, 5 VOUT33, 6 VREGIN, 7 ADC0_DP0, 8 ADC0_DM0, 9 VDDA, 10 VREFH, 11 VREFL, 12 VSSA, 13 VREF_OUT, 14 XTAL32, 15 EXTAL32, 16 VBAT, 22 VDD, 23 VSS, 26 Reset

## MKL25Z64VLH4
designator U?
Imported; Manufacturer_Part_Number: mkl25z64vlh4; Vendor: FREESCALE; CPU: ARM Cortex-M0+; Max_Frequency: 48; Flash_KB: 64; SRAM_KB: 8; Pin_Count: 64; Package: LQFP; RefDes: RefDes; Type: Type; Value: Value
footprint 98ASS23234W
pins: 1 PTE0/UART1_TX/RTC_CLKOUT/CMP0_OUT/I2C1_SDA (io), 2 PTE1/SPI1_MOSI/UART1_RX/SPI1_MISO/I2C1_SCL (io), 3 VDD1 (power), 4 VSS1 (power), 5 USB0_DP, 6 USB0_DM, 7 VOUT33 (out), 8 VREGIN (in), 9 PTE20/ADC0_DP0/ADC0_SE0/TPM1_CH0/UART0_TX (io), 10 PTE21/ADC0_DM0/ADC0_SE4A/TPM1_CH1/UART0_RX (io), 11 PTE22/ADC0_DP3/ADC0_SE3/TPM2_CH0/UART2_TX (io), 12 PTE23/ADC0_DM3/ADC0_SE7A/TPM2_CH1/UART2_RX (io), 13 VDDA (power), 14 VREFH (power), 15 VREFL (power), 16 VSSA (power), 17 PTE29/CMP0_IN5/ADC0_SE4B/TPM0_CH2/TPM_CLKIN0 (io), 18 PTE30/DAC0_OUT/ADC0_SE23/CMP0_IN4/TPM0_CH3/TPM_CLKIN1 (io), 19 PTE31/TPM0_CH4 (io), 20 PTE24/TPM0_CH0/I2C0_SCL (io), 21 PTE25/TPM0_CH1/I2C0_SDA (io), 22 PTA0/SWD_CLK/TSI0_CH1/TPM0_CH5 (io), 23 PTA1/TSI0_CH2/UART0_RX/TPM2_CH0 (io), 24 PTA2/TSI0_CH3/UART0_TX/TPM2_CH1 (io), 25 PTA3/SWD_DIO/TSI0_CH4/I2C1_SCL/TPM0_CH0 (io), 26 PTA4/*NMI/TSI0_CH5/I2C1_SDA/TPM0_CH1 (io), 27 PTA5/USB_CLKIN/TPM0_CH2 (io), 28 PTA12/TPM1_CH0 (io), 29 PTA13/TPM1_CH1 (io), 30 VDD2 (power), 31 VSS2 (power), 32 PTA18/EXTAL0/UART1_RX/TPM_CLKIN0 (io), 33 PTA19/XTAL0/UART1_TX/TPM_CLKIN1/LPTMR0_ALT1 (io), 34 PTA20/*RESET (io), 35 PTB0/LLWU_P5/ADC0_SE8/TSI0_CH0/I2C0_SCL/TPM1_CH0 (io), 36 PTB1/ADC0_SE9/TSI0_CH6/I2C0_SDA/TPM1_CH1 (io), 37 PTB2/ADC0_SE12/TSI0_CH7/I2C0_SCL/TPM2_CH0 (io), 38 PTB3/ADC0_SE13/TSI0_CH8/I2C0_SDA/TPM2_CH1 (io), 39 PTB16/TSI0_CH9/SPI1_MOSI/UART0_RX/TPM_CLKIN0/SPI1_MISO (io), 40 PTB17/TSI0_CH10/SPI1_MISO/UART0_TX/TPM_CLKIN1/SPI1_MOSI (io), 41 PTB18/TSI0_CH11/TPM2_CH0 (io), 42 PTB19/TSI0_CH12/TPM2_CH1 (io), 43 PTC0/ADC0_SE14/TSI0_CH13/EXTRG_IN/CMP0_OUT (io), 44 PTC1/LLWU_P6/RTC_CLKIN/ADC0_SE15/TSI0_CH14/I2C1_SCL/TPM0_CH0 (io), 45 PTC2/ADC0_SE11/TSI0_CH15/I2C1_SDA/TPM0_CH1 (io), 46 PTC3/LLWU_P7/UART1_RX/TPM0_CH2/CLKOUT (io), 47 VSS3 (power), 48 VDD3 (power), 49 PTC4/LLWU_P8/SPI0_PCS0/UART1_TX/TPM0_CH3 (io), 50 PTC5/LLWU_P9/SPI0_SCK/LPTMR0_ALT2/CMP0_OUT (io), 51 PTC6/LLWU_P10/CMP0_IN0/SPI0_MOSI/EXTRG_IN/SPI0_MISO (io), 52 PTC7/CMP0_IN1/SPI0_MISO/SPI0_MOSI (io), 53 PTC8/CMP0_IN2/I2C0_SCL/TPM0_CH4 (io), 54 PTC9/CMP0_IN3/I2C0_SDA/TPM0_CH5 (io), 55 PTC10/I2C1_SCL (io), 56 PTC11/I2C1_SDA (io), 57 PTD0/SPI0_PCS0/TPM0_CH0 (io), 58 PTD1/ADC0_SE5B/SPI0_SCK/TPM0_CH1 (io), 59 PTD2/SPI0_MOSI/UART2_RX/TPM0_CH2/SPI0_MISO (io), 60 PTD3/SPI0_MISO/UART2_TX/TPM0_CH3/SPI0_MOSI (io), 61 PTD4/LLWU_P14/SPI1_PCS0/UART2_RX/TPM0_CH4 (io), 62 PTD5/ADC0_SE6B/SPI1_SCK/UART2_TX/TPM0_CH5 (io), 63 PTD6/LLWU_P15/ADC0_SE7B/SPI1_MOSI/UART0_RX/SPI1_MISO (io), 64 PTD7/SPI1_MISO/UART0_TX/SPI1_MOSI (io)